# Altium schematic symbol library CPLD_Altera.SchLib: 26 symbols
Pins are listed as number, name and electrical type; pins without a type are passive.

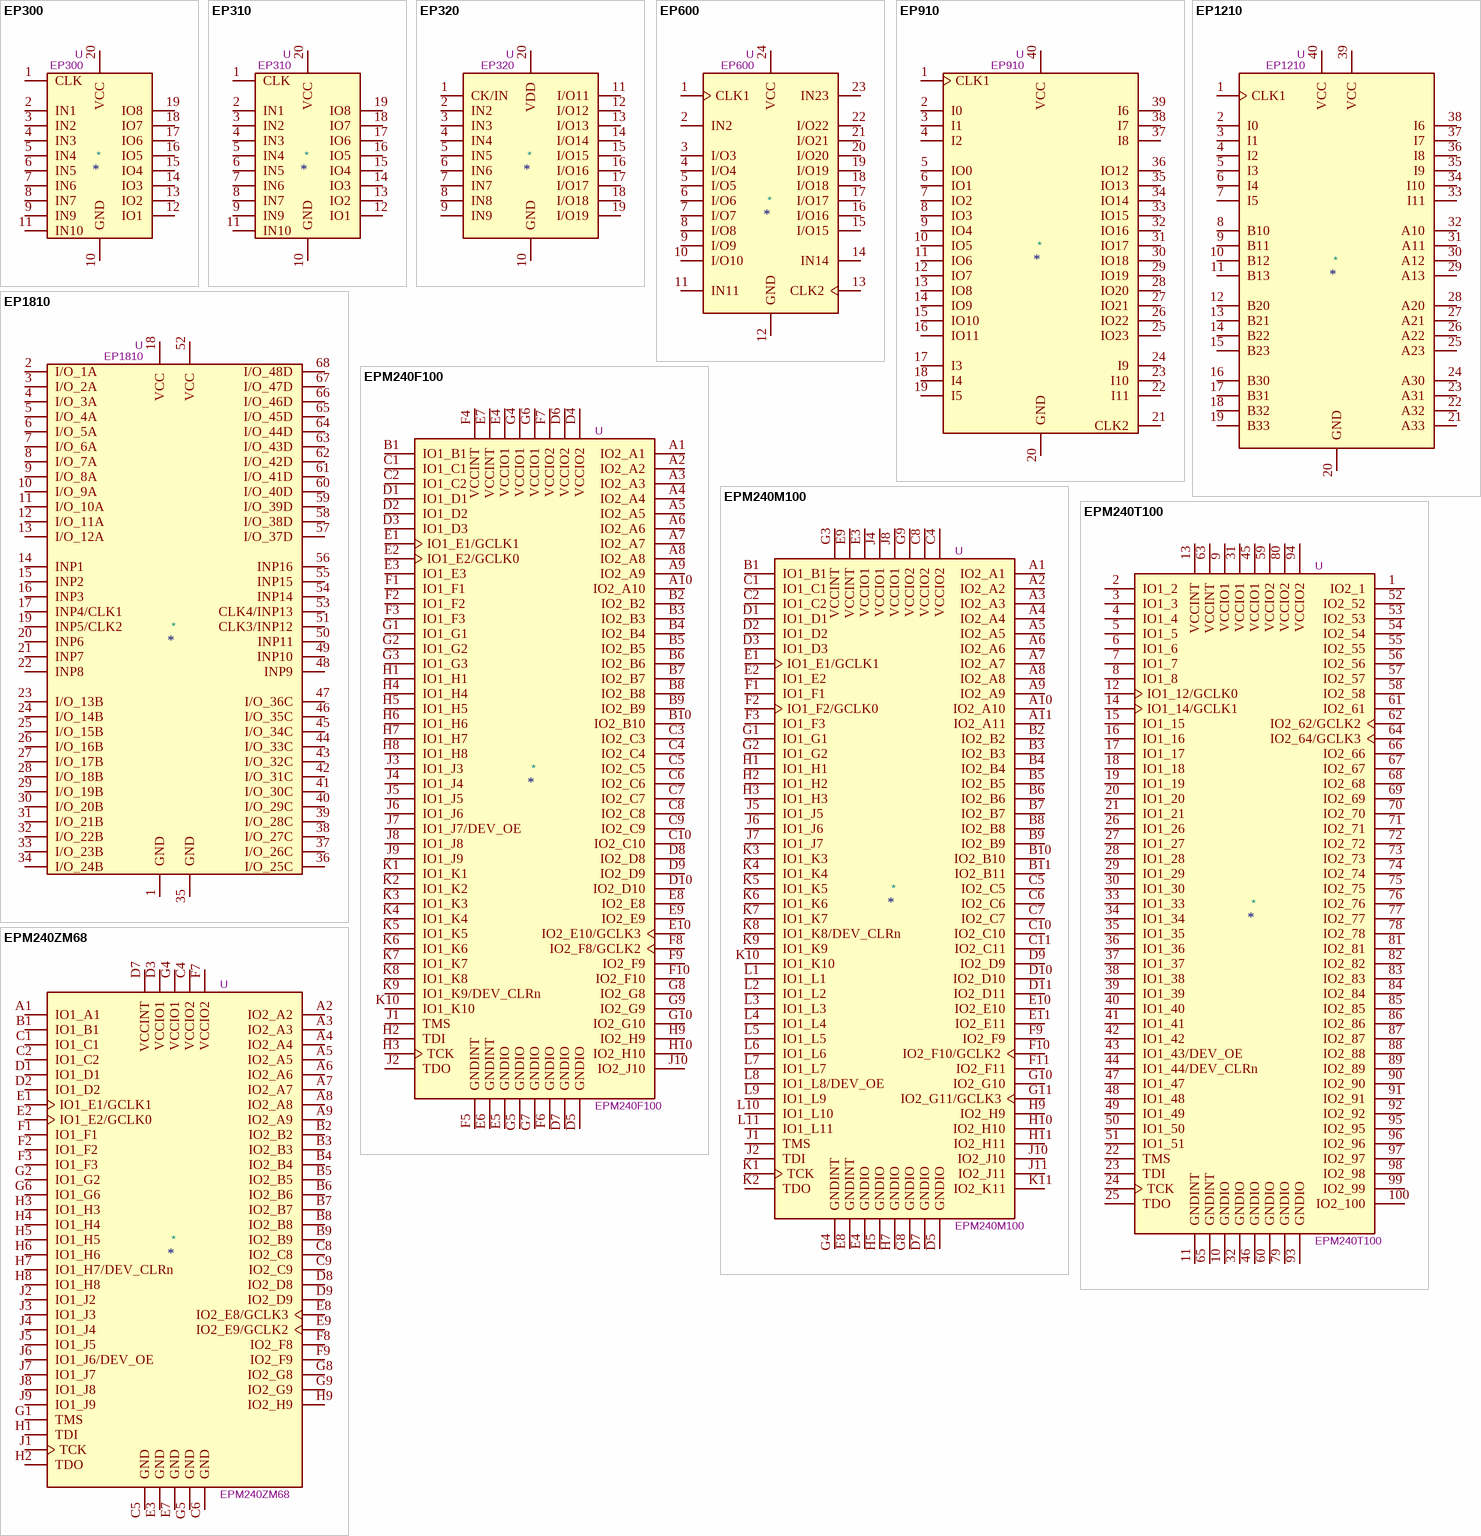
[diagram p0: symbols EP300 to EPM240ZM68]

## EP300
designator *  value EP300  Reference: U
ki_keywords: EPLD; ki_description: EPLD, DIP-20; ki_fp_filters: DIP*W7.62mm*; Footprint: Package_DIP:DIP-20_W7.62mm; Datasheet: ~
pins: 1 CLK, 2 IN1, 3 IN2, 4 IN3, 5 IN4, 6 IN5, 7 IN6, 8 IN7, 9 IN9, 10 GND, 11 IN10, 12 IO1, 13 IO2, 14 IO3, 15 IO4, 16 IO5, 17 IO6, 18 IO7, 19 IO8, 20 VCC

## EP310
designator *  value EP310  Reference: U
ki_keywords: EPLD; ki_description: EPLD, 8 Macrocell, DIP-20; ki_fp_filters: DIP*W7.62mm*; Footprint: Package_DIP:DIP-20_W7.62mm; Datasheet: https://www.usbid.com/assets/datasheets/A6/ep310%20-%20epld%20-%20altera.pdf
pins: 1 CLK, 2 IN1, 3 IN2, 4 IN3, 5 IN4, 6 IN5, 7 IN6, 8 IN7, 9 IN9, 10 GND, 11 IN10, 12 IO1, 13 IO2, 14 IO3, 15 IO4, 16 IO5, 17 IO6, 18 IO7, 19 IO8, 20 VCC

## EP320
designator *  value EP320  Reference: U
ki_keywords: EPLD; Datasheet: ~; ki_description: EPLD
pins: 1 CK/IN, 2 IN2, 3 IN3, 4 IN4, 5 IN5, 6 IN6, 7 IN7, 8 IN8, 9 IN9, 10 GND, 11 I/O11, 12 I/O12, 13 I/O13, 14 I/O14, 15 I/O15, 16 I/O16, 17 I/O17, 18 I/O18, 19 I/O19, 20 VDD

## EP600
designator *  value EP600  Reference: U
ki_keywords: EPLD; Datasheet: ~; ki_description: EPLD
pins: 1 CLK1, 2 IN2, 3 I/O3, 4 I/O4, 5 I/O5, 6 I/O6, 7 I/O7, 8 I/O8, 9 I/O9, 10 I/O10, 11 IN11, 12 GND, 13 CLK2, 14 IN14, 15 I/O15, 16 I/O16, 17 I/O17, 18 I/O18, 19 I/O19, 20 I/O20, 21 I/O21, 22 I/O22, 23 IN23, 24 VCC

## EP910
designator *  value EP910  Reference: U
ki_keywords: EPLD; Datasheet: ~; ki_description: EPLD
pins: 1 CLK1, 2 I0, 3 I1, 4 I2, 5 IO0, 6 IO1, 7 IO2, 8 IO3, 9 IO4, 10 IO5, 11 IO6, 12 IO7, 13 IO8, 14 IO9, 15 IO10, 16 IO11, 17 I3, 18 I4, 19 I5, 20 GND, 21 CLK2, 22 I11, 23 I10, 24 I9, 25 IO23, 26 IO22, 27 IO21, 28 IO20, 29 IO19, 30 IO18, 31 IO17, 32 IO16, 33 IO15, 34 IO14, 35 IO13, 36 IO12, 37 I8, 38 I7, 39 I6, 40 VCC

## EP1210
designator *  value EP1210  Reference: U
ki_keywords: EPLD; Datasheet: ~; ki_description: EPLD
pins: 1 CLK1, 2 I0, 3 I1, 4 I2, 5 I3, 6 I4, 7 I5, 8 B10, 9 B11, 10 B12, 11 B13, 12 B20, 13 B21, 14 B22, 15 B23, 16 B30, 17 B31, 18 B32, 19 B33, 20 GND, 21 A33, 22 A32, 23 A31, 24 A30, 25 A23, 26 A22, 27 A21, 28 A20, 29 A13, 30 A12, 31 A11, 32 A10, 33 I11, 34 I10, 35 I9, 36 I8, 37 I7, 38 I6, 39 VCC, 40 VCC

## EP1810
designator *  value EP1810  Reference: U
ki_keywords: EPLD; Datasheet: ~; ki_description: EPLD
pins: 1 GND, 2 I/O_1A, 3 I/O_2A, 4 I/O_3A, 5 I/O_4A, 6 I/O_5A, 7 I/O_6A, 8 I/O_7A, 9 I/O_8A, 10 I/O_9A, 11 I/O_10A, 12 I/O_11A, 13 I/O_12A, 14 INP1, 15 INP2, 16 INP3, 17 INP4/CLK1, 18 VCC, 19 INP5/CLK2, 20 INP6, 21 INP7, 22 INP8, 23 I/O_13B, 24 I/O_14B, 25 I/O_15B, 26 I/O_16B, 27 I/O_17B, 28 I/O_18B, 29 I/O_19B, 30 I/O_20B, 31 I/O_21B, 32 I/O_22B, 33 I/O_23B, 34 I/O_24B, 35 GND, 36 I/O_25C, 37 I/O_26C, 38 I/O_27C, 39 I/O_28C, 40 I/O_29C, 41 I/O_30C, 42 I/O_31C, 43 I/O_32C, 44 I/O_33C, 45 I/O_34C, 46 I/O_35C, 47 I/O_36C, 48 INP9, 49 INP10, 50 INP11, 51 CLK3/INP12, 52 VCC, 53 CLK4/INP13, 54 INP14, 55 INP15, 56 INP16, 57 I/O_37D, 58 I/O_38D, 59 I/O_39D, 60 I/O_40D, 61 I/O_41D, 62 I/O_42D, 63 I/O_43D, 64 I/O_44D, 65 I/O_45D, 66 I/O_46D, 67 I/O_47D, 68 I/O_48D

## EPM240F100
designator *  value EPM240F100  Reference: U
ki_keywords: MAX2 FBGA; ki_description: Altera MAX2 CPLD with 240 LE; ki_fp_filters: *BGA*P1.0mm*; Footprint: Package_BGA:BGA-100_11.0x11.0mm_Layout10x10_P1.0mm_Ball0.5mm_Pad0.4mm_NSMD; Datasheet: https://www.altera.com/content/dam/altera-www/global/en_US/pdfs/literature/hb/max2/max2_mii5v1.pdf
pins: A1 IO2_A1, A2 IO2_A2, A3 IO2_A3, A4 IO2_A4, A5 IO2_A5, A6 IO2_A6, A7 IO2_A7, A8 IO2_A8, A9 IO2_A9, A10 IO2_A10, B1 IO1_B1, B2 IO2_B2, B3 IO2_B3, B4 IO2_B4, B5 IO2_B5, B6 IO2_B6, B7 IO2_B7, B8 IO2_B8, B9 IO2_B9, B10 IO2_B10, C1 IO1_C1, C2 IO1_C2, C3 IO2_C3, C4 IO2_C4, C5 IO2_C5, C6 IO2_C6, C7 IO2_C7, C8 IO2_C8, C9 IO2_C9, C10 IO2_C10, D1 IO1_D1, D2 IO1_D2, D3 IO1_D3, D4 VCCIO2, D5 GNDIO, D6 VCCIO2, D7 GNDIO, D8 IO2_D8, D9 IO2_D9, D10 IO2_D10, E1 IO1_E1/GCLK1, E2 IO1_E2/GCLK0, E3 IO1_E3, E4 VCCIO1, E5 GNDIO, E6 GNDINT, E7 VCCINT, E8 IO2_E8, E9 IO2_E9, E10 IO2_E10/GCLK3, F1 IO1_F1, F2 IO1_F2, F3 IO1_F3, F4 VCCINT, F5 GNDINT, F6 GNDIO, F7 VCCIO2, F8 IO2_F8/GCLK2, F9 IO2_F9, F10 IO2_F10, G1 IO1_G1, G2 IO1_G2, G3 IO1_G3, G4 VCCIO1, G5 GNDIO, G6 VCCIO1, G7 GNDIO, G8 IO2_G8, G9 IO2_G9, G10 IO2_G10, H1 IO1_H1, H2 TDI, H3 TCK, H4 IO1_H4, H5 IO1_H5, H6 IO1_H6, H7 IO1_H7, H8 IO1_H8, H9 IO2_H9, H10 IO2_H10, J1 TMS, J2 TDO, J3 IO1_J3, J4 IO1_J4, J5 IO1_J5, J6 IO1_J6, J7 IO1_J7/DEV_OE, J8 IO1_J8, J9 IO1_J9, J10 IO2_J10, K1 IO1_K1, K2 IO1_K2, K3 IO1_K3, K4 IO1_K4, K5 IO1_K5, K6 IO1_K6, K7 IO1_K7, K8 IO1_K8, K9 IO1_K9/DEV_CLRn, K10 IO1_K10

## EPM240M100
designator *  value EPM240M100  Reference: U
ki_keywords: MAX2 MBGA; ki_description: Altera MAX2 CPLD with 240 LE; ki_fp_filters: *BGA*P0.5mm*; Footprint: Package_BGA:BGA-100_6.0x6.0mm_Layout11x11_P0.5mm_Ball0.3mm_Pad0.25mm_NSMD; Datasheet: https://www.altera.com/content/dam/altera-www/global/en_US/pdfs/literature/hb/max2/max2_mii5v1.pdf
pins: A1 IO2_A1, A2 IO2_A2, A3 IO2_A3, A4 IO2_A4, A5 IO2_A5, A6 IO2_A6, A7 IO2_A7, A8 IO2_A8, A9 IO2_A9, A10 IO2_A10, A11 IO2_A11, B1 IO1_B1, B2 IO2_B2, B3 IO2_B3, B4 IO2_B4, B5 IO2_B5, B6 IO2_B6, B7 IO2_B7, B8 IO2_B8, B9 IO2_B9, B10 IO2_B10, B11 IO2_B11, C1 IO1_C1, C2 IO1_C2, C4 VCCIO2, C5 IO2_C5, C6 IO2_C6, C7 IO2_C7, C8 VCCIO2, C10 IO2_C10, C11 IO2_C11, D1 IO1_D1, D2 IO1_D2, D3 IO1_D3, D5 GNDIO, D7 GNDIO, D9 IO2_D9, D10 IO2_D10, D11 IO2_D11, E1 IO1_E1/GCLK1, E2 IO1_E2, E3 VCCIO1, E4 GNDIO, E8 GNDINT, E9 VCCINT, E10 IO2_E10, E11 IO2_E11, F1 IO1_F1, F2 IO1_F2/GCLK0, F3 IO1_F3, F9 IO2_F9, F10 IO2_F10/GCLK2, F11 IO2_F11, G1 IO1_G1, G2 IO1_G2, G3 VCCINT, G4 GNDINT, G8 GNDIO, G9 VCCIO2, G10 IO2_G10, G11 IO2_G11/GCLK3, H1 IO1_H1, H2 IO1_H2, H3 IO1_H3, H5 GNDIO, H7 GNDIO, H9 IO2_H9, H10 IO2_H10, H11 IO2_H11, J1 TMS, J2 TDI, J4 VCCIO1, J5 IO1_J5, J6 IO1_J6, J7 IO1_J7, J8 VCCIO1, J10 IO2_J10, J11 IO2_J11, K1 TCK, K2 TDO, K3 IO1_K3, K4 IO1_K4, K5 IO1_K5, K6 IO1_K6, K7 IO1_K7, K8 IO1_K8/DEV_CLRn, K9 IO1_K9, K10 IO1_K10, K11 IO2_K11, L1 IO1_L1, L2 IO1_L2, L3 IO1_L3, L4 IO1_L4, L5 IO1_L5, L6 IO1_L6, L7 IO1_L7, L8 IO1_L8/DEV_OE, L9 IO1_L9, L10 IO1_L10, L11 IO1_L11

## EPM240T100
designator *  value EPM240T100  Reference: U
ki_keywords: MAX2 TQFP; ki_description: Altera MAX2 CPLD with 240 LE; ki_fp_filters: *QFP*P0.5mm*; Footprint: Package_QFP:LQFP-100_14x14mm_P0.5mm; Datasheet: https://www.altera.com/content/dam/altera-www/global/en_US/pdfs/literature/hb/max2/max2_mii5v1.pdf
pins: 1 IO2_1, 2 IO1_2, 3 IO1_3, 4 IO1_4, 5 IO1_5, 6 IO1_6, 7 IO1_7, 8 IO1_8, 9 VCCIO1, 10 GNDIO, 11 GNDINT, 12 IO1_12/GCLK0, 13 VCCINT, 14 IO1_14/GCLK1, 15 IO1_15, 16 IO1_16, 17 IO1_17, 18 IO1_18, 19 IO1_19, 20 IO1_20, 21 IO1_21, 22 TMS, 23 TDI, 24 TCK, 25 TDO, 26 IO1_26, 27 IO1_27, 28 IO1_28, 29 IO1_29, 30 IO1_30, 31 VCCIO1, 32 GNDIO, 33 IO1_33, 34 IO1_34, 35 IO1_35, 36 IO1_36, 37 IO1_37, 38 IO1_38, 39 IO1_39, 40 IO1_40, 41 IO1_41, 42 IO1_42, 43 IO1_43/DEV_OE, 44 IO1_44/DEV_CLRn, 45 VCCIO1, 46 GNDIO, 47 IO1_47, 48 IO1_48, 49 IO1_49, 50 IO1_50, 51 IO1_51, 52 IO2_52, 53 IO2_53, 54 IO2_54, 55 IO2_55, 56 IO2_56, 57 IO2_57, 58 IO2_58, 59 VCCIO2, 60 GNDIO, 61 IO2_61, 62 IO2_62/GCLK2, 63 VCCINT, 64 IO2_64/GCLK3, 65 GNDINT, 66 IO2_66, 67 IO2_67, 68 IO2_68, 69 IO2_69, 70 IO2_70, 71 IO2_71, 72 IO2_72, 73 IO2_73, 74 IO2_74, 75 IO2_75, 76 IO2_76, 77 IO2_77, 78 IO2_78, 79 GNDIO, 80 VCCIO2, 81 IO2_81, 82 IO2_82, 83 IO2_83, 84 IO2_84, 85 IO2_85, 86 IO2_86, 87 IO2_87, 88 IO2_88, 89 IO2_89, 90 IO2_90, 91 IO2_91, 92 IO2_92, 93 GNDIO, 94 VCCIO2, 95 IO2_95, 96 IO2_96, 97 IO2_97, 98 IO2_98, 99 IO2_99, 100 IO2_100

## EPM240ZM68
designator *  value EPM240ZM68  Reference: U
ki_keywords: MAX2 MBGA; ki_description: Altera Zero-Power MAX2 CPLD with 240 LE; ki_fp_filters: *BGA*P0.5mm*; Footprint: Package_BGA:BGA-68_5.0x5.0mm_Layout9x9_P0.5mm_Ball0.3mm_Pad0.25mm_NSMD; Datasheet: https://www.altera.com/content/dam/altera-www/global/en_US/pdfs/literature/hb/max2/max2_mii5v1.pdf
pins: A1 IO1_A1, A2 IO2_A2, A3 IO2_A3, A4 IO2_A4, A5 IO2_A5, A6 IO2_A6, A7 IO2_A7, A8 IO2_A8, A9 IO2_A9, B1 IO1_B1, B2 IO2_B2, B3 IO2_B3, B4 IO2_B4, B5 IO2_B5, B6 IO2_B6, B7 IO2_B7, B8 IO2_B8, B9 IO2_B9, C1 IO1_C1, C2 IO1_C2, C4 VCCIO2, C5 GND, C6 GND, C8 IO2_C8, C9 IO2_C9, D1 IO1_D1, D2 IO1_D2, D3 VCCIO1, D7 VCCINT, D8 IO2_D8, D9 IO2_D9, E1 IO1_E1/GCLK1, E2 IO1_E2/GCLK0, E3 GND, E7 GND, E8 IO2_E8/GCLK3, E9 IO2_E9/GCLK2, F1 IO1_F1, F2 IO1_F2, F3 IO1_F3, F7 VCCIO2, F8 IO2_F8, F9 IO2_F9, G1 TMS, G2 IO1_G2, G4 VCCIO1, G5 GND, G6 IO1_G6, G8 IO2_G8, G9 IO2_G9, H1 TDI, H2 TDO, H3 IO1_H3, H4 IO1_H4, H5 IO1_H5, H6 IO1_H6, H7 IO1_H7/DEV_CLRn, H8 IO1_H8, H9 IO2_H9, J1 TCK, J2 IO1_J2, J3 IO1_J3, J4 IO1_J4, J5 IO1_J5, J6 IO1_J6/DEV_OE, J7 IO1_J7, J8 IO1_J8, J9 IO1_J9

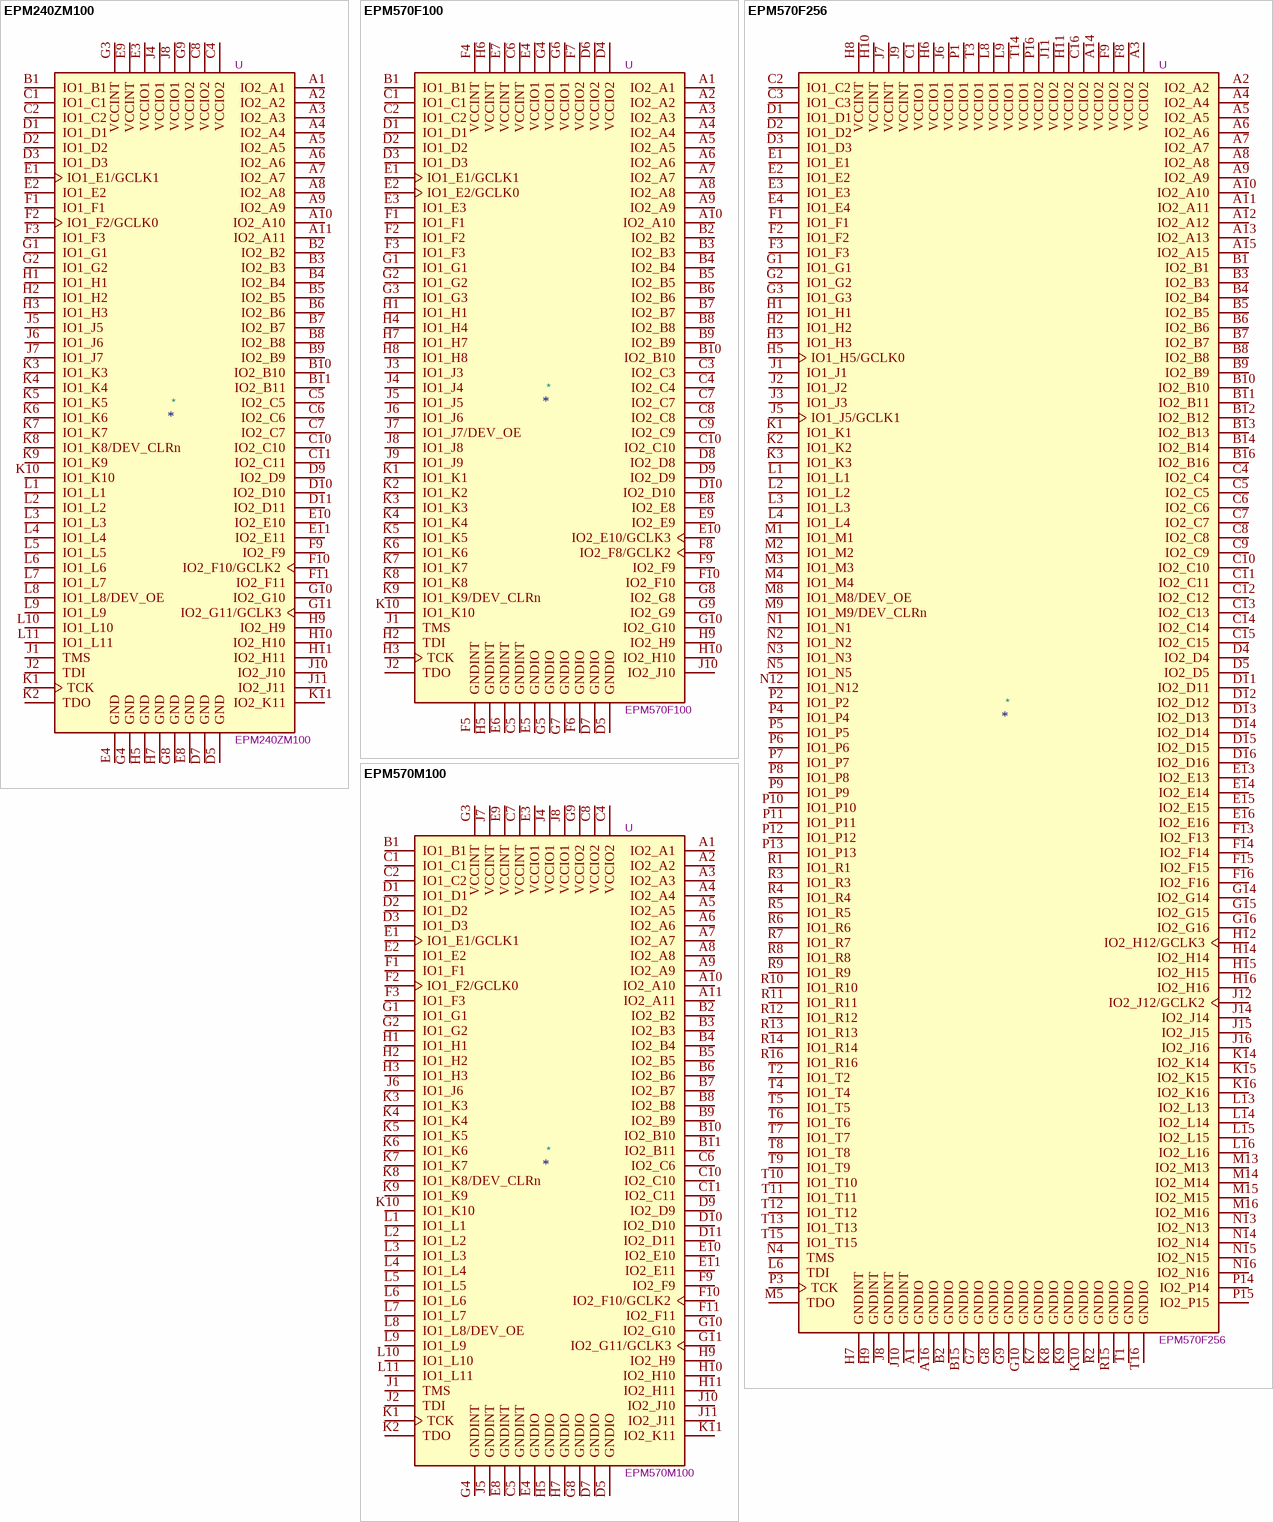
[diagram p1: symbols EPM240ZM100 to EPM570M100]

## EPM240ZM100
designator *  value EPM240ZM100  Reference: U
ki_keywords: MAX2 MBGA; ki_description: Altera Zero-Power MAX2 CPLD with 240 LE; ki_fp_filters: *BGA*P0.5mm*; Footprint: Package_BGA:BGA-100_6.0x6.0mm_Layout11x11_P0.5mm_Ball0.3mm_Pad0.25mm_NSMD; Datasheet: https://www.altera.com/content/dam/altera-www/global/en_US/pdfs/literature/hb/max2/max2_mii5v1.pdf
pins: A1 IO2_A1, A2 IO2_A2, A3 IO2_A3, A4 IO2_A4, A5 IO2_A5, A6 IO2_A6, A7 IO2_A7, A8 IO2_A8, A9 IO2_A9, A10 IO2_A10, A11 IO2_A11, B1 IO1_B1, B2 IO2_B2, B3 IO2_B3, B4 IO2_B4, B5 IO2_B5, B6 IO2_B6, B7 IO2_B7, B8 IO2_B8, B9 IO2_B9, B10 IO2_B10, B11 IO2_B11, C1 IO1_C1, C2 IO1_C2, C4 VCCIO2, C5 IO2_C5, C6 IO2_C6, C7 IO2_C7, C8 VCCIO2, C10 IO2_C10, C11 IO2_C11, D1 IO1_D1, D2 IO1_D2, D3 IO1_D3, D5 GND, D7 GND, D9 IO2_D9, D10 IO2_D10, D11 IO2_D11, E1 IO1_E1/GCLK1, E2 IO1_E2, E3 VCCIO1, E4 GND, E8 GND, E9 VCCINT, E10 IO2_E10, E11 IO2_E11, F1 IO1_F1, F2 IO1_F2/GCLK0, F3 IO1_F3, F9 IO2_F9, F10 IO2_F10/GCLK2, F11 IO2_F11, G1 IO1_G1, G2 IO1_G2, G3 VCCINT, G4 GND, G8 GND, G9 VCCIO2, G10 IO2_G10, G11 IO2_G11/GCLK3, H1 IO1_H1, H2 IO1_H2, H3 IO1_H3, H5 GND, H7 GND, H9 IO2_H9, H10 IO2_H10, H11 IO2_H11, J1 TMS, J2 TDI, J4 VCCIO1, J5 IO1_J5, J6 IO1_J6, J7 IO1_J7, J8 VCCIO1, J10 IO2_J10, J11 IO2_J11, K1 TCK, K2 TDO, K3 IO1_K3, K4 IO1_K4, K5 IO1_K5, K6 IO1_K6, K7 IO1_K7, K8 IO1_K8/DEV_CLRn, K9 IO1_K9, K10 IO1_K10, K11 IO2_K11, L1 IO1_L1, L2 IO1_L2, L3 IO1_L3, L4 IO1_L4, L5 IO1_L5, L6 IO1_L6, L7 IO1_L7, L8 IO1_L8/DEV_OE, L9 IO1_L9, L10 IO1_L10, L11 IO1_L11

## EPM570F100
designator *  value EPM570F100  Reference: U
ki_keywords: MAX2 FBGA; ki_description: Altera MAX2 CPLD with 570 LE; ki_fp_filters: *BGA*P1.0mm*; Footprint: Package_BGA:BGA-100_11.0x11.0mm_Layout10x10_P1.0mm_Ball0.5mm_Pad0.4mm_NSMD; Datasheet: https://www.altera.com/content/dam/altera-www/global/en_US/pdfs/literature/hb/max2/max2_mii5v1.pdf
pins: A1 IO2_A1, A2 IO2_A2, A3 IO2_A3, A4 IO2_A4, A5 IO2_A5, A6 IO2_A6, A7 IO2_A7, A8 IO2_A8, A9 IO2_A9, A10 IO2_A10, B1 IO1_B1, B2 IO2_B2, B3 IO2_B3, B4 IO2_B4, B5 IO2_B5, B6 IO2_B6, B7 IO2_B7, B8 IO2_B8, B9 IO2_B9, B10 IO2_B10, C1 IO1_C1, C2 IO1_C2, C3 IO2_C3, C4 IO2_C4, C5 GNDINT, C6 VCCINT, C7 IO2_C7, C8 IO2_C8, C9 IO2_C9, C10 IO2_C10, D1 IO1_D1, D2 IO1_D2, D3 IO1_D3, D4 VCCIO2, D5 GNDIO, D6 VCCIO2, D7 GNDIO, D8 IO2_D8, D9 IO2_D9, D10 IO2_D10, E1 IO1_E1/GCLK1, E2 IO1_E2/GCLK0, E3 IO1_E3, E4 VCCIO1, E5 GNDIO, E6 GNDINT, E7 VCCINT, E8 IO2_E8, E9 IO2_E9, E10 IO2_E10/GCLK3, F1 IO1_F1, F2 IO1_F2, F3 IO1_F3, F4 VCCINT, F5 GNDINT, F6 GNDIO, F7 VCCIO2, F8 IO2_F8/GCLK2, F9 IO2_F9, F10 IO2_F10, G1 IO1_G1, G2 IO1_G2, G3 IO1_G3, G4 VCCIO1, G5 GNDIO, G6 VCCIO1, G7 GNDIO, G8 IO2_G8, G9 IO2_G9, G10 IO2_G10, H1 IO1_H1, H2 TDI, H3 TCK, H4 IO1_H4, H5 GNDINT, H6 VCCINT, H7 IO1_H7, H8 IO1_H8, H9 IO2_H9, H10 IO2_H10, J1 TMS, J2 TDO, J3 IO1_J3, J4 IO1_J4, J5 IO1_J5, J6 IO1_J6, J7 IO1_J7/DEV_OE, J8 IO1_J8, J9 IO1_J9, J10 IO2_J10, K1 IO1_K1, K2 IO1_K2, K3 IO1_K3, K4 IO1_K4, K5 IO1_K5, K6 IO1_K6, K7 IO1_K7, K8 IO1_K8, K9 IO1_K9/DEV_CLRn, K10 IO1_K10

## EPM570F256
designator *  value EPM570F256  Reference: U
ki_keywords: MAX2 FBGA; ki_description: Altera MAX2 CPLD with 570 LE; ki_fp_filters: *BGA*P1.0mm*; Footprint: Package_BGA:BGA-256_17.0x17.0mm_Layout16x16_P1.0mm_Ball0.5mm_Pad0.4mm_NSMD; Datasheet: https://www.altera.com/content/dam/altera-www/global/en_US/pdfs/literature/hb/max2/max2_mii5v1.pdf
pins: A1 GNDIO, A2 IO2_A2, A3 VCCIO2, A4 IO2_A4, A5 IO2_A5, A6 IO2_A6, A7 IO2_A7, A8 IO2_A8, A9 IO2_A9, A10 IO2_A10, A11 IO2_A11, A12 IO2_A12, A13 IO2_A13, A14 VCCIO2, A15 IO2_A15, A16 GNDIO, B1 IO2_B1, B2 GNDIO, B3 IO2_B3, B4 IO2_B4, B5 IO2_B5, B6 IO2_B6, B7 IO2_B7, B8 IO2_B8, B9 IO2_B9, B10 IO2_B10, B11 IO2_B11, B12 IO2_B12, B13 IO2_B13, B14 IO2_B14, B15 GNDIO, B16 IO2_B16, C1 VCCIO1, C2 IO1_C2, C3 IO1_C3, C4 IO2_C4, C5 IO2_C5, C6 IO2_C6, C7 IO2_C7, C8 IO2_C8, C9 IO2_C9, C10 IO2_C10, C11 IO2_C11, C12 IO2_C12, C13 IO2_C13, C14 IO2_C14, C15 IO2_C15, C16 VCCIO2, D1 IO1_D1, D2 IO1_D2, D3 IO1_D3, D4 IO2_D4, D5 IO2_D5, D11 IO2_D11, D12 IO2_D12, D13 IO2_D13, D14 IO2_D14, D15 IO2_D15, D16 IO2_D16, E1 IO1_E1, E2 IO1_E2, E3 IO1_E3, E4 IO1_E4, E13 IO2_E13, E14 IO2_E14, E15 IO2_E15, E16 IO2_E16, F1 IO1_F1, F2 IO1_F2, F3 IO1_F3, F8 VCCIO2, F9 VCCIO2, F13 IO2_F13, F14 IO2_F14, F15 IO2_F15, F16 IO2_F16, G1 IO1_G1, G2 IO1_G2, G3 IO1_G3, G7 GNDIO, G8 GNDIO, G9 GNDIO, G10 GNDIO, G14 IO2_G14, G15 IO2_G15, G16 IO2_G16, H1 IO1_H1, H2 IO1_H2, H3 IO1_H3, H5 IO1_H5/GCLK0, H6 VCCIO1, H7 GNDINT, H8 VCCINT, H9 GNDINT, H10 VCCINT, H11 VCCIO2, H12 IO2_H12/GCLK3, H14 IO2_H14, H15 IO2_H15, H16 IO2_H16, J1 IO1_J1, J2 IO1_J2, J3 IO1_J3, J5 IO1_J5/GCLK1, J6 VCCIO1, J7 VCCINT, J8 GNDINT, J9 VCCINT, J10 GNDINT, J11 VCCIO2, J12 IO2_J12/GCLK2, J14 IO2_J14, J15 IO2_J15, J16 IO2_J16, K1 IO1_K1, K2 IO1_K2, K3 IO1_K3, K7 GNDIO, K8 GNDIO, K9 GNDIO, K10 GNDIO, K14 IO2_K14, K15 IO2_K15, K16 IO2_K16, L1 IO1_L1, L2 IO1_L2, L3 IO1_L3, L4 IO1_L4, L6 TDI, L8 VCCIO1, L9 VCCIO1, L13 IO2_L13, L14 IO2_L14, L15 IO2_L15, L16 IO2_L16, M1 IO1_M1, M2 IO1_M2, M3 IO1_M3, M4 IO1_M4, M5 TDO, M8 IO1_M8/DEV_OE, M9 IO1_M9/DEV_CLRn, M13 IO2_M13, M14 IO2_M14, M15 IO2_M15, M16 IO2_M16, N1 IO1_N1, N2 IO1_N2, N3 IO1_N3, N4 TMS, N5 IO1_N5, N12 IO1_N12, N13 IO2_N13, N14 IO2_N14, N15 IO2_N15, N16 IO2_N16, P1 VCCIO1, P2 IO1_P2, P3 TCK, P4 IO1_P4, P5 IO1_P5, P6 IO1_P6, P7 IO1_P7, P8 IO1_P8, P9 IO1_P9, P10 IO1_P10, P11 IO1_P11, P12 IO1_P12, P13 IO1_P13, P14 IO2_P14, P15 IO2_P15, P16 VCCIO2, R1 IO1_R1, R2 GNDIO, R3 IO1_R3, R4 IO1_R4, R5 IO1_R5, R6 IO1_R6, R7 IO1_R7, R8 IO1_R8, R9 IO1_R9, R10 IO1_R10, R11 IO1_R11, R12 IO1_R12, R13 IO1_R13, R14 IO1_R14, R15 GNDIO, R16 IO1_R16, T1 GNDIO, T2 IO1_T2, T3 VCCIO1, T4 IO1_T4, T5 IO1_T5, T6 IO1_T6, T7 IO1_T7, T8 IO1_T8, T9 IO1_T9, T10 IO1_T10, T11 IO1_T11, T12 IO1_T12, T13 IO1_T13, T14 VCCIO1, T15 IO1_T15, T16 GNDIO

## EPM570M100
designator *  value EPM570M100  Reference: U
ki_keywords: MAX2 MBGA; ki_description: Altera MAX2 CPLD with 570 LE; ki_fp_filters: *BGA*P0.5mm*; Footprint: Package_BGA:BGA-100_6.0x6.0mm_Layout11x11_P0.5mm_Ball0.3mm_Pad0.25mm_NSMD; Datasheet: https://www.altera.com/content/dam/altera-www/global/en_US/pdfs/literature/hb/max2/max2_mii5v1.pdf
pins: A1 IO2_A1, A2 IO2_A2, A3 IO2_A3, A4 IO2_A4, A5 IO2_A5, A6 IO2_A6, A7 IO2_A7, A8 IO2_A8, A9 IO2_A9, A10 IO2_A10, A11 IO2_A11, B1 IO1_B1, B2 IO2_B2, B3 IO2_B3, B4 IO2_B4, B5 IO2_B5, B6 IO2_B6, B7 IO2_B7, B8 IO2_B8, B9 IO2_B9, B10 IO2_B10, B11 IO2_B11, C1 IO1_C1, C2 IO1_C2, C4 VCCIO2, C5 GNDINT, C6 IO2_C6, C7 VCCINT, C8 VCCIO2, C10 IO2_C10, C11 IO2_C11, D1 IO1_D1, D2 IO1_D2, D3 IO1_D3, D5 GNDIO, D7 GNDIO, D9 IO2_D9, D10 IO2_D10, D11 IO2_D11, E1 IO1_E1/GCLK1, E2 IO1_E2, E3 VCCIO1, E4 GNDIO, E8 GNDINT, E9 VCCINT, E10 IO2_E10, E11 IO2_E11, F1 IO1_F1, F2 IO1_F2/GCLK0, F3 IO1_F3, F9 IO2_F9, F10 IO2_F10/GCLK2, F11 IO2_F11, G1 IO1_G1, G2 IO1_G2, G3 VCCINT, G4 GNDINT, G8 GNDIO, G9 VCCIO2, G10 IO2_G10, G11 IO2_G11/GCLK3, H1 IO1_H1, H2 IO1_H2, H3 IO1_H3, H5 GNDIO, H7 GNDIO, H9 IO2_H9, H10 IO2_H10, H11 IO2_H11, J1 TMS, J2 TDI, J4 VCCIO1, J5 GNDINT, J6 IO1_J6, J7 VCCINT, J8 VCCIO1, J10 IO2_J10, J11 IO2_J11, K1 TCK, K2 TDO, K3 IO1_K3, K4 IO1_K4, K5 IO1_K5, K6 IO1_K6, K7 IO1_K7, K8 IO1_K8/DEV_CLRn, K9 IO1_K9, K10 IO1_K10, K11 IO2_K11, L1 IO1_L1, L2 IO1_L2, L3 IO1_L3, L4 IO1_L4, L5 IO1_L5, L6 IO1_L6, L7 IO1_L7, L8 IO1_L8/DEV_OE, L9 IO1_L9, L10 IO1_L10, L11 IO1_L11

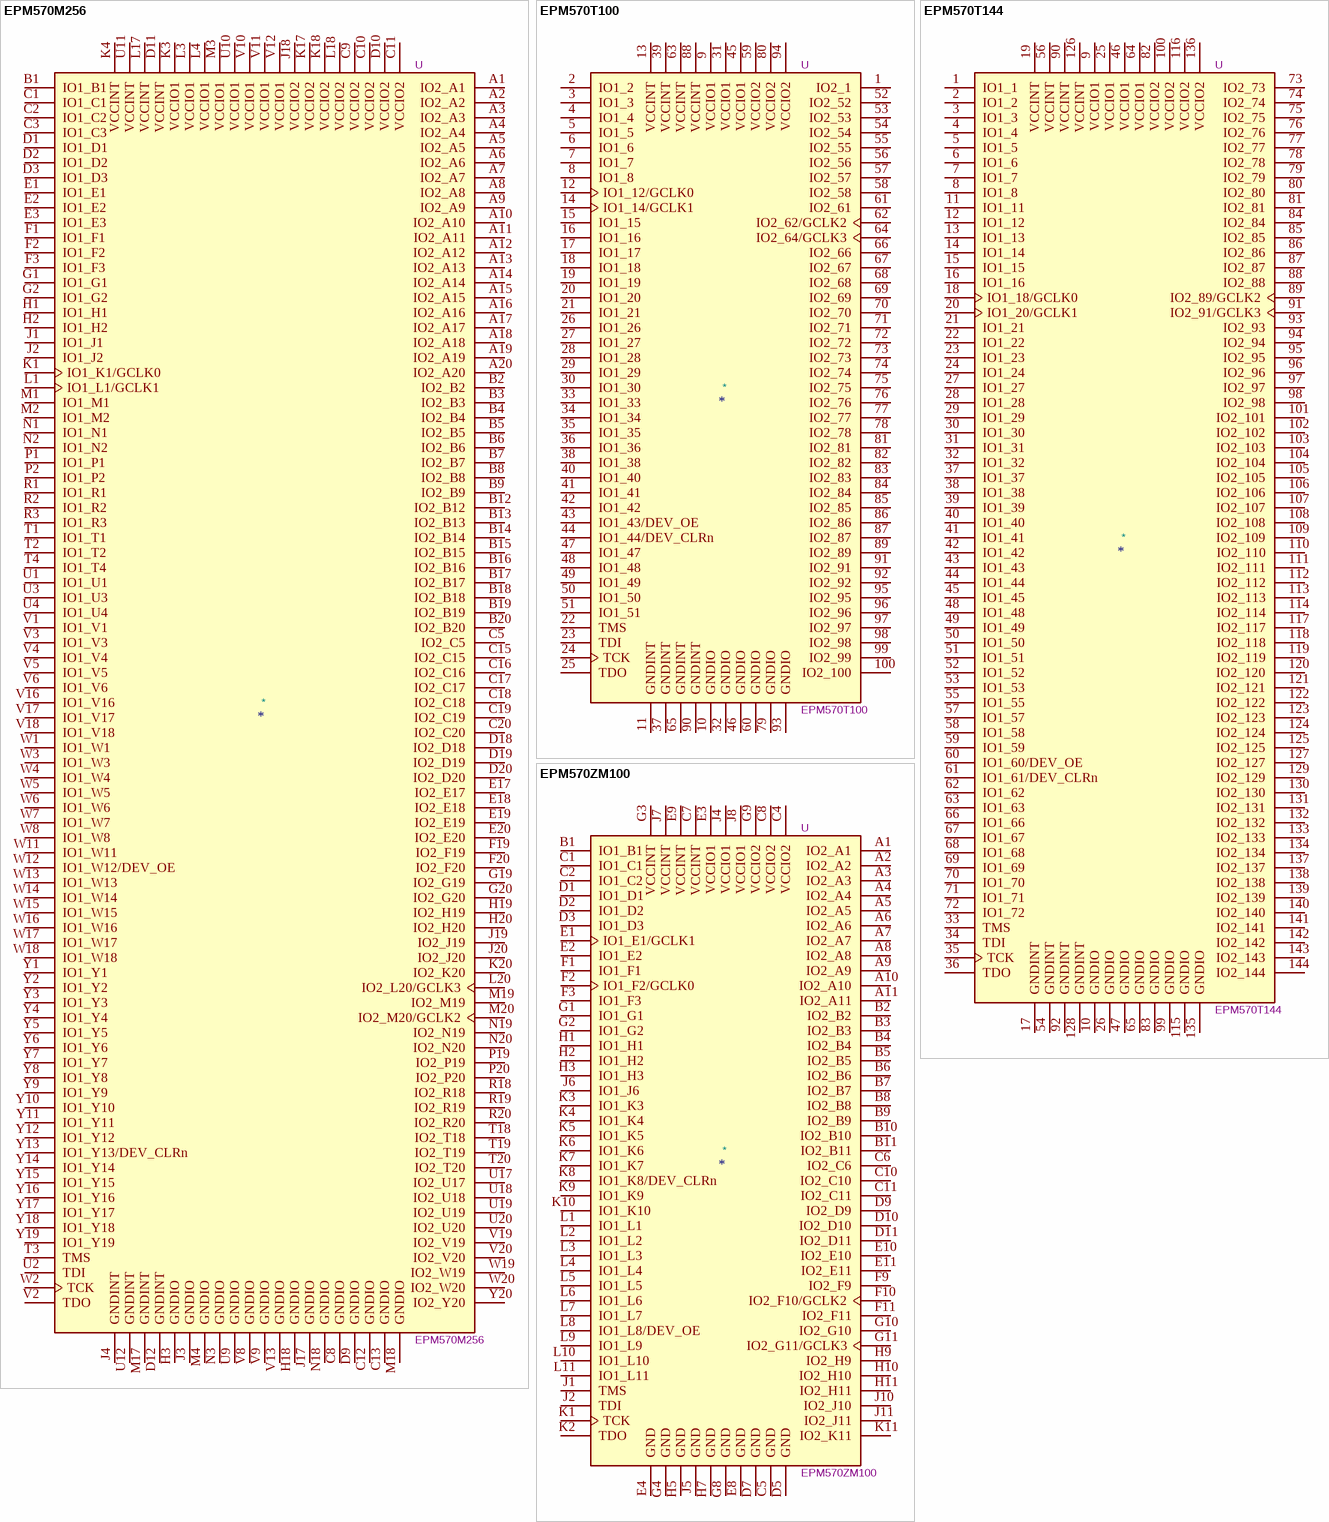
[diagram p2: symbols EPM570M256 to EPM570ZM100]

## EPM570M256
designator *  value EPM570M256  Reference: U
ki_keywords: MAX2 MBGA; ki_description: Altera MAX2 CPLD with 570 LE; ki_fp_filters: *BGA*P0.5mm*; Footprint: Package_BGA:BGA-256_11.0x11.0mm_Layout20x20_P0.5mm_Ball0.3mm_Pad0.25mm_NSMD; Datasheet: https://www.altera.com/content/dam/altera-www/global/en_US/pdfs/literature/hb/max2/max2_mii5v1.pdf
pins: A1 IO2_A1, A2 IO2_A2, A3 IO2_A3, A4 IO2_A4, A5 IO2_A5, A6 IO2_A6, A7 IO2_A7, A8 IO2_A8, A9 IO2_A9, A10 IO2_A10, A11 IO2_A11, A12 IO2_A12, A13 IO2_A13, A14 IO2_A14, A15 IO2_A15, A16 IO2_A16, A17 IO2_A17, A18 IO2_A18, A19 IO2_A19, A20 IO2_A20, B1 IO1_B1, B2 IO2_B2, B3 IO2_B3, B4 IO2_B4, B5 IO2_B5, B6 IO2_B6, B7 IO2_B7, B8 IO2_B8, B9 IO2_B9, B12 IO2_B12, B13 IO2_B13, B14 IO2_B14, B15 IO2_B15, B16 IO2_B16, B17 IO2_B17, B18 IO2_B18, B19 IO2_B19, B20 IO2_B20, C1 IO1_C1, C2 IO1_C2, C3 IO1_C3, C5 IO2_C5, C8 GNDIO, C9 VCCIO2, C10 VCCIO2, C11 VCCIO2, C12 GNDIO, C13 GNDIO, C15 IO2_C15, C16 IO2_C16, C17 IO2_C17, C18 IO2_C18, C19 IO2_C19, C20 IO2_C20, D1 IO1_D1, D2 IO1_D2, D3 IO1_D3, D9 GNDIO, D10 VCCIO2, D11 VCCINT, D12 GNDINT, D18 IO2_D18, D19 IO2_D19, D20 IO2_D20, E1 IO1_E1, E2 IO1_E2, E3 IO1_E3, E17 IO2_E17, E18 IO2_E18, E19 IO2_E19, E20 IO2_E20, F1 IO1_F1, F2 IO1_F2, F3 IO1_F3, F19 IO2_F19, F20 IO2_F20, G1 IO1_G1, G2 IO1_G2, G19 IO2_G19, G20 IO2_G20, H1 IO1_H1, H2 IO1_H2, H3 GNDIO, H18 GNDIO, H19 IO2_H19, H20 IO2_H20, J1 IO1_J1, J2 IO1_J2, J3 GNDIO, J4 GNDINT, J17 GNDIO, J18 VCCIO2, J19 IO2_J19, J20 IO2_J20, K1 IO1_K1/GCLK0, K3 VCCIO1, K4 VCCINT, K17 VCCIO2, K18 VCCIO2, K20 IO2_K20, L1 IO1_L1/GCLK1, L3 VCCIO1, L4 VCCIO1, L17 VCCINT, L18 VCCIO2, L20 IO2_L20/GCLK3, M1 IO1_M1, M2 IO1_M2, M3 VCCIO1, M4 GNDIO, M17 GNDINT, M18 GNDIO, M19 IO2_M19, M20 IO2_M20/GCLK2, N1 IO1_N1, N2 IO1_N2, N3 GNDIO, N18 GNDIO, N19 IO2_N19, N20 IO2_N20, P1 IO1_P1, P2 IO1_P2, P19 IO2_P19, P20 IO2_P20, R1 IO1_R1, R2 IO1_R2, R3 IO1_R3, R18 IO2_R18, R19 IO2_R19, R20 IO2_R20, T1 IO1_T1, T2 IO1_T2, T3 TMS, T4 IO1_T4, T18 IO2_T18, T19 IO2_T19, T20 IO2_T20, U1 IO1_U1, U2 TDI, U3 IO1_U3, U4 IO1_U4, U9 GNDIO, U10 VCCIO1, U11 VCCINT, U12 GNDINT, U17 IO2_U17, U18 IO2_U18, U19 IO2_U19, U20 IO2_U20, V1 IO1_V1, V2 TDO, V3 IO1_V3, V4 IO1_V4, V5 IO1_V5, V6 IO1_V6, V8 GNDIO, V9 GNDIO, V10 VCCIO1, V11 VCCIO1, V12 VCCIO1, V13 GNDIO, V16 IO1_V16, V17 IO1_V17, V18 IO1_V18, V19 IO2_V19, V20 IO2_V20, W1 IO1_W1, W2 TCK, W3 IO1_W3, W4 IO1_W4, W5 IO1_W5, W6 IO1_W6, W7 IO1_W7, W8 IO1_W8, W11 IO1_W11, W12 IO1_W12/DEV_OE, W13 IO1_W13, W14 IO1_W14, W15 IO1_W15, W16 IO1_W16, W17 IO1_W17, W18 IO1_W18, W19 IO2_W19, W20 IO2_W20, Y1 IO1_Y1, Y2 IO1_Y2, Y3 IO1_Y3, Y4 IO1_Y4, Y5 IO1_Y5, Y6 IO1_Y6, Y7 IO1_Y7, Y8 IO1_Y8, Y9 IO1_Y9, Y10 IO1_Y10, Y11 IO1_Y11, Y12 IO1_Y12, Y13 IO1_Y13/DEV_CLRn, Y14 IO1_Y14, Y15 IO1_Y15, Y16 IO1_Y16, Y17 IO1_Y17, Y18 IO1_Y18, Y19 IO1_Y19, Y20 IO2_Y20

## EPM570T100
designator *  value EPM570T100  Reference: U
ki_keywords: MAX2 TQFP; ki_description: Altera MAX2 CPLD with 570 LE; ki_fp_filters: *QFP*P0.5mm*; Footprint: Package_QFP:LQFP-100_14x14mm_P0.5mm; Datasheet: https://www.altera.com/content/dam/altera-www/global/en_US/pdfs/literature/hb/max2/max2_mii5v1.pdf
pins: 1 IO2_1, 2 IO1_2, 3 IO1_3, 4 IO1_4, 5 IO1_5, 6 IO1_6, 7 IO1_7, 8 IO1_8, 9 VCCIO1, 10 GNDIO, 11 GNDINT, 12 IO1_12/GCLK0, 13 VCCINT, 14 IO1_14/GCLK1, 15 IO1_15, 16 IO1_16, 17 IO1_17, 18 IO1_18, 19 IO1_19, 20 IO1_20, 21 IO1_21, 22 TMS, 23 TDI, 24 TCK, 25 TDO, 26 IO1_26, 27 IO1_27, 28 IO1_28, 29 IO1_29, 30 IO1_30, 31 VCCIO1, 32 GNDIO, 33 IO1_33, 34 IO1_34, 35 IO1_35, 36 IO1_36, 37 GNDINT, 38 IO1_38, 39 VCCINT, 40 IO1_40, 41 IO1_41, 42 IO1_42, 43 IO1_43/DEV_OE, 44 IO1_44/DEV_CLRn, 45 VCCIO1, 46 GNDIO, 47 IO1_47, 48 IO1_48, 49 IO1_49, 50 IO1_50, 51 IO1_51, 52 IO2_52, 53 IO2_53, 54 IO2_54, 55 IO2_55, 56 IO2_56, 57 IO2_57, 58 IO2_58, 59 VCCIO2, 60 GNDIO, 61 IO2_61, 62 IO2_62/GCLK2, 63 VCCINT, 64 IO2_64/GCLK3, 65 GNDINT, 66 IO2_66, 67 IO2_67, 68 IO2_68, 69 IO2_69, 70 IO2_70, 71 IO2_71, 72 IO2_72, 73 IO2_73, 74 IO2_74, 75 IO2_75, 76 IO2_76, 77 IO2_77, 78 IO2_78, 79 GNDIO, 80 VCCIO2, 81 IO2_81, 82 IO2_82, 83 IO2_83, 84 IO2_84, 85 IO2_85, 86 IO2_86, 87 IO2_87, 88 VCCINT, 89 IO2_89, 90 GNDINT, 91 IO2_91, 92 IO2_92, 93 GNDIO, 94 VCCIO2, 95 IO2_95, 96 IO2_96, 97 IO2_97, 98 IO2_98, 99 IO2_99, 100 IO2_100

## EPM570T144
designator *  value EPM570T144  Reference: U
ki_keywords: MAX2 TQFP; ki_description: Altera MAX2 CPLD with 570 LE; ki_fp_filters: *QFP*P0.5mm*; Footprint: Package_QFP:LQFP-144_20x20mm_P0.5mm; Datasheet: https://www.altera.com/content/dam/altera-www/global/en_US/pdfs/literature/hb/max2/max2_mii5v1.pdf
pins: 1 IO1_1, 2 IO1_2, 3 IO1_3, 4 IO1_4, 5 IO1_5, 6 IO1_6, 7 IO1_7, 8 IO1_8, 9 VCCIO1, 10 GNDIO, 11 IO1_11, 12 IO1_12, 13 IO1_13, 14 IO1_14, 15 IO1_15, 16 IO1_16, 17 GNDINT, 18 IO1_18/GCLK0, 19 VCCINT, 20 IO1_20/GCLK1, 21 IO1_21, 22 IO1_22, 23 IO1_23, 24 IO1_24, 25 VCCIO1, 26 GNDIO, 27 IO1_27, 28 IO1_28, 29 IO1_29, 30 IO1_30, 31 IO1_31, 32 IO1_32, 33 TMS, 34 TDI, 35 TCK, 36 TDO, 37 IO1_37, 38 IO1_38, 39 IO1_39, 40 IO1_40, 41 IO1_41, 42 IO1_42, 43 IO1_43, 44 IO1_44, 45 IO1_45, 46 VCCIO1, 47 GNDIO, 48 IO1_48, 49 IO1_49, 50 IO1_50, 51 IO1_51, 52 IO1_52, 53 IO1_53, 54 GNDINT, 55 IO1_55, 56 VCCINT, 57 IO1_57, 58 IO1_58, 59 IO1_59, 60 IO1_60/DEV_OE, 61 IO1_61/DEV_CLRn, 62 IO1_62, 63 IO1_63, 64 VCCIO1, 65 GNDIO, 66 IO1_66, 67 IO1_67, 68 IO1_68, 69 IO1_69, 70 IO1_70, 71 IO1_71, 72 IO1_72, 73 IO2_73, 74 IO2_74, 75 IO2_75, 76 IO2_76, 77 IO2_77, 78 IO2_78, 79 IO2_79, 80 IO2_80, 81 IO2_81, 82 VCCIO2, 83 GNDIO, 84 IO2_84, 85 IO2_85, 86 IO2_86, 87 IO2_87, 88 IO2_88, 89 IO2_89/GCLK2, 90 VCCINT, 91 IO2_91/GCLK3, 92 GNDINT, 93 IO2_93, 94 IO2_94, 95 IO2_95, 96 IO2_96, 97 IO2_97, 98 IO2_98, 99 GNDIO, 100 VCCIO2, 101 IO2_101, 102 IO2_102, 103 IO2_103, 104 IO2_104, 105 IO2_105, 106 IO2_106, 107 IO2_107, 108 IO2_108, 109 IO2_109, 110 IO2_110, 111 IO2_111, 112 IO2_112, 113 IO2_113, 114 IO2_114, 115 GNDIO, 116 VCCIO2, 117 IO2_117, 118 IO2_118, 119 IO2_119, 120 IO2_120, 121 IO2_121, 122 IO2_122, 123 IO2_123, 124 IO2_124, 125 IO2_125, 126 VCCINT, 127 IO2_127, 128 GNDINT, 129 IO2_129, 130 IO2_130, 131 IO2_131, 132 IO2_132, 133 IO2_133, 134 IO2_134, 135 GNDIO, 136 VCCIO2, 137 IO2_137, 138 IO2_138, 139 IO2_139, 140 IO2_140, 141 IO2_141, 142 IO2_142, 143 IO2_143, 144 IO2_144

## EPM570ZM100
designator *  value EPM570ZM100  Reference: U
ki_keywords: MAX2 MBGA; ki_description: Altera Zero-Power MAX2 CPLD with 570 LE; ki_fp_filters: *BGA*P0.5mm*; Footprint: Package_BGA:BGA-100_6.0x6.0mm_Layout11x11_P0.5mm_Ball0.3mm_Pad0.25mm_NSMD; Datasheet: https://www.altera.com/content/dam/altera-www/global/en_US/pdfs/literature/hb/max2/max2_mii5v1.pdf
pins: A1 IO2_A1, A2 IO2_A2, A3 IO2_A3, A4 IO2_A4, A5 IO2_A5, A6 IO2_A6, A7 IO2_A7, A8 IO2_A8, A9 IO2_A9, A10 IO2_A10, A11 IO2_A11, B1 IO1_B1, B2 IO2_B2, B3 IO2_B3, B4 IO2_B4, B5 IO2_B5, B6 IO2_B6, B7 IO2_B7, B8 IO2_B8, B9 IO2_B9, B10 IO2_B10, B11 IO2_B11, C1 IO1_C1, C2 IO1_C2, C4 VCCIO2, C5 GND, C6 IO2_C6, C7 VCCINT, C8 VCCIO2, C10 IO2_C10, C11 IO2_C11, D1 IO1_D1, D2 IO1_D2, D3 IO1_D3, D5 GND, D7 GND, D9 IO2_D9, D10 IO2_D10, D11 IO2_D11, E1 IO1_E1/GCLK1, E2 IO1_E2, E3 VCCIO1, E4 GND, E8 GND, E9 VCCINT, E10 IO2_E10, E11 IO2_E11, F1 IO1_F1, F2 IO1_F2/GCLK0, F3 IO1_F3, F9 IO2_F9, F10 IO2_F10/GCLK2, F11 IO2_F11, G1 IO1_G1, G2 IO1_G2, G3 VCCINT, G4 GND, G8 GND, G9 VCCIO2, G10 IO2_G10, G11 IO2_G11/GCLK3, H1 IO1_H1, H2 IO1_H2, H3 IO1_H3, H5 GND, H7 GND, H9 IO2_H9, H10 IO2_H10, H11 IO2_H11, J1 TMS, J2 TDI, J4 VCCIO1, J5 GND, J6 IO1_J6, J7 VCCINT, J8 VCCIO1, J10 IO2_J10, J11 IO2_J11, K1 TCK, K2 TDO, K3 IO1_K3, K4 IO1_K4, K5 IO1_K5, K6 IO1_K6, K7 IO1_K7, K8 IO1_K8/DEV_CLRn, K9 IO1_K9, K10 IO1_K10, K11 IO2_K11, L1 IO1_L1, L2 IO1_L2, L3 IO1_L3, L4 IO1_L4, L5 IO1_L5, L6 IO1_L6, L7 IO1_L7, L8 IO1_L8/DEV_OE, L9 IO1_L9, L10 IO1_L10, L11 IO1_L11

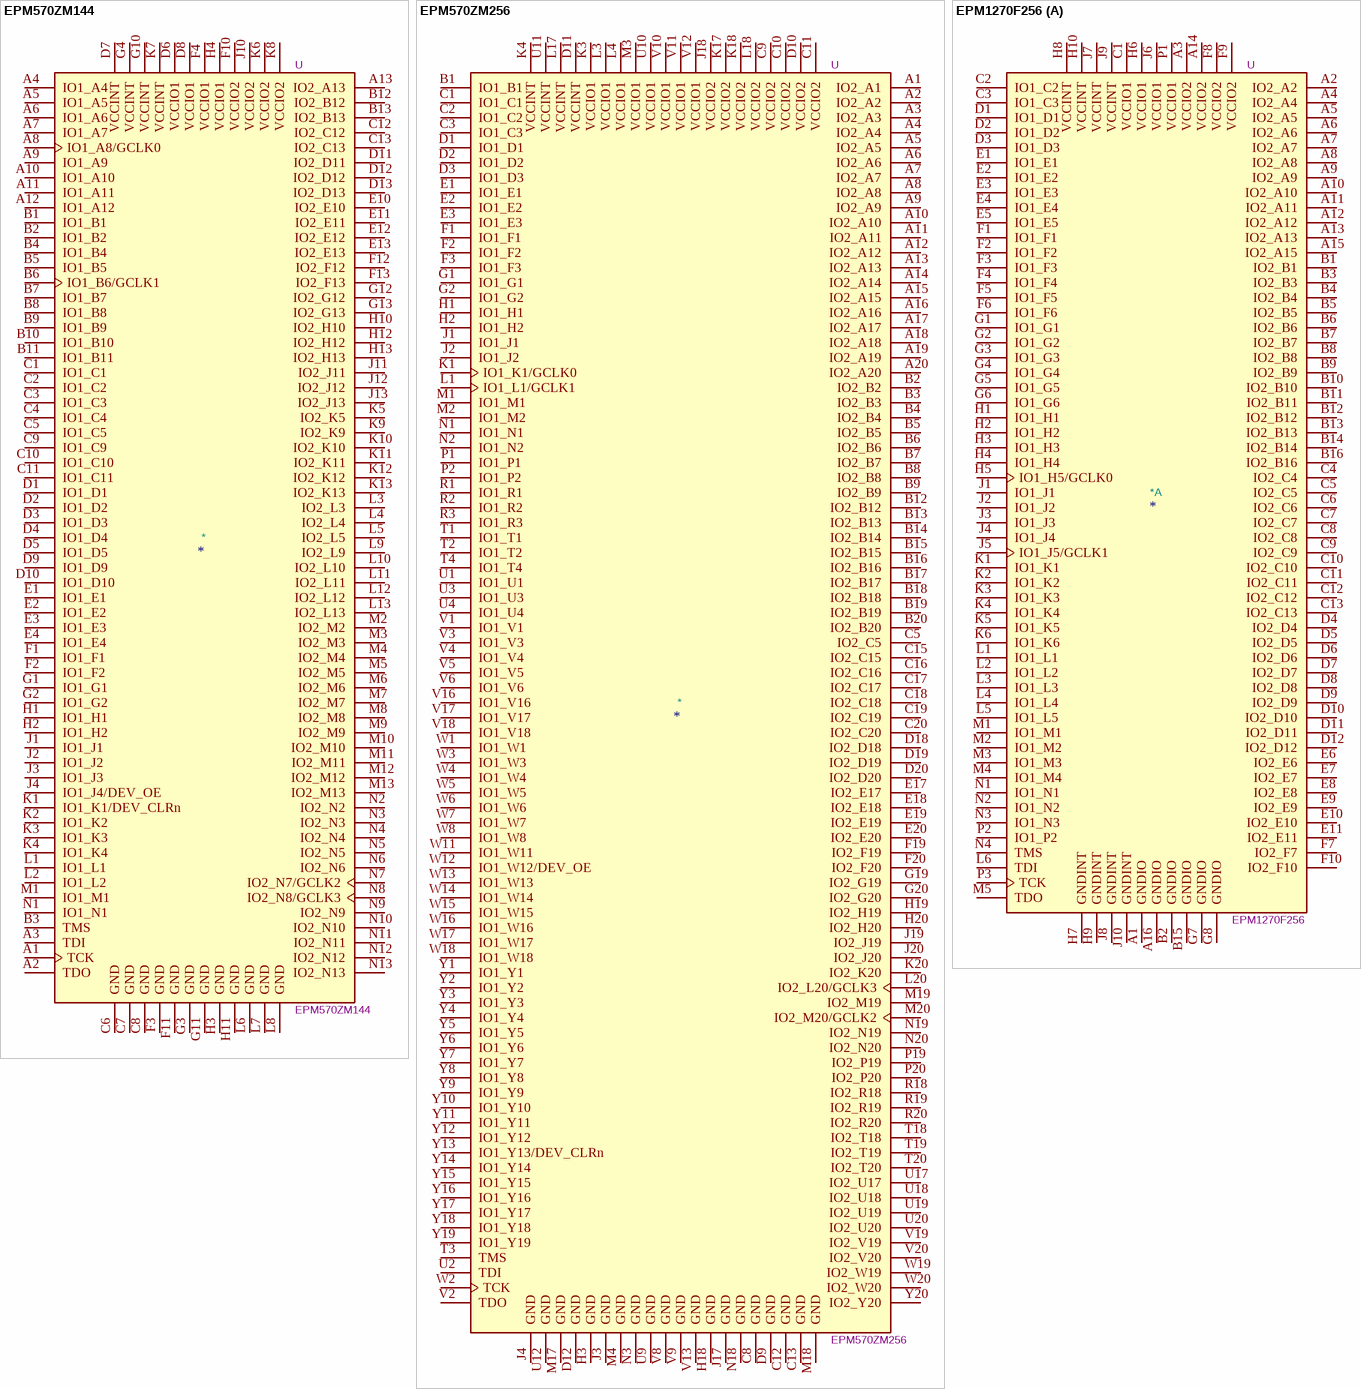
[diagram p3: symbols EPM570ZM144 to EPM1270F256]

## EPM570ZM144
designator *  value EPM570ZM144  Reference: U
ki_keywords: MAX2 MBGA; ki_description: Altera Zero-Power MAX2 CPLD with 570 LE; ki_fp_filters: *BGA*P0.5mm*; Footprint: Package_BGA:BGA-144_7.0x7.0mm_Layout13x13_P0.5mm_Ball0.3mm_Pad0.25mm_NSMD; Datasheet: https://www.altera.com/content/dam/altera-www/global/en_US/pdfs/literature/hb/max2/max2_mii5v1.pdf
pins: A1 TCK, A2 TDO, A3 TDI, A4 IO1_A4, A5 IO1_A5, A6 IO1_A6, A7 IO1_A7, A8 IO1_A8/GCLK0, A9 IO1_A9, A10 IO1_A10, A11 IO1_A11, A12 IO1_A12, A13 IO2_A13, B1 IO1_B1, B2 IO1_B2, B3 TMS, B4 IO1_B4, B5 IO1_B5, B6 IO1_B6/GCLK1, B7 IO1_B7, B8 IO1_B8, B9 IO1_B9, B10 IO1_B10, B11 IO1_B11, B12 IO2_B12, B13 IO2_B13, C1 IO1_C1, C2 IO1_C2, C3 IO1_C3, C4 IO1_C4, C5 IO1_C5, C6 GND, C7 GND, C8 GND, C9 IO1_C9, C10 IO1_C10, C11 IO1_C11, C12 IO2_C12, C13 IO2_C13, D1 IO1_D1, D2 IO1_D2, D3 IO1_D3, D4 IO1_D4, D5 IO1_D5, D6 VCCIO1, D7 VCCINT, D8 VCCIO1, D9 IO1_D9, D10 IO1_D10, D11 IO2_D11, D12 IO2_D12, D13 IO2_D13, E1 IO1_E1, E2 IO1_E2, E3 IO1_E3, E4 IO1_E4, E10 IO2_E10, E11 IO2_E11, E12 IO2_E12, E13 IO2_E13, F1 IO1_F1, F2 IO1_F2, F3 GND, F4 VCCIO1, F10 VCCIO2, F11 GND, F12 IO2_F12, F13 IO2_F13, G1 IO1_G1, G2 IO1_G2, G3 GND, G4 VCCINT, G10 VCCINT, G11 GND, G12 IO2_G12, G13 IO2_G13, H1 IO1_H1, H2 IO1_H2, H3 GND, H4 VCCIO1, H10 IO2_H10, H11 GND, H12 IO2_H12, H13 IO2_H13, J1 IO1_J1, J2 IO1_J2, J3 IO1_J3, J4 IO1_J4/DEV_OE, J10 VCCIO2, J11 IO2_J11, J12 IO2_J12, J13 IO2_J13, K1 IO1_K1/DEV_CLRn, K2 IO1_K2, K3 IO1_K3, K4 IO1_K4, K5 IO2_K5, K6 VCCIO2, K7 VCCINT, K8 VCCIO2, K9 IO2_K9, K10 IO2_K10, K11 IO2_K11, K12 IO2_K12, K13 IO2_K13, L1 IO1_L1, L2 IO1_L2, L3 IO2_L3, L4 IO2_L4, L5 IO2_L5, L6 GND, L7 GND, L8 GND, L9 IO2_L9, L10 IO2_L10, L11 IO2_L11, L12 IO2_L12, L13 IO2_L13, M1 IO1_M1, M2 IO2_M2, M3 IO2_M3, M4 IO2_M4, M5 IO2_M5, M6 IO2_M6, M7 IO2_M7, M8 IO2_M8, M9 IO2_M9, M10 IO2_M10, M11 IO2_M11, M12 IO2_M12, M13 IO2_M13, N1 IO1_N1, N2 IO2_N2, N3 IO2_N3, N4 IO2_N4, N5 IO2_N5, N6 IO2_N6, N7 IO2_N7/GCLK2, N8 IO2_N8/GCLK3, N9 IO2_N9, N10 IO2_N10, N11 IO2_N11, N12 IO2_N12, N13 IO2_N13

## EPM570ZM256
designator *  value EPM570ZM256  Reference: U
ki_keywords: MAX2 MBGA; ki_description: Altera Zero-Power MAX2 CPLD with 570 LE; ki_fp_filters: *BGA*P0.5mm*; Footprint: Package_BGA:BGA-256_11.0x11.0mm_Layout20x20_P0.5mm_Ball0.3mm_Pad0.25mm_NSMD; Datasheet: https://www.altera.com/content/dam/altera-www/global/en_US/pdfs/literature/hb/max2/max2_mii5v1.pdf
pins: A1 IO2_A1, A2 IO2_A2, A3 IO2_A3, A4 IO2_A4, A5 IO2_A5, A6 IO2_A6, A7 IO2_A7, A8 IO2_A8, A9 IO2_A9, A10 IO2_A10, A11 IO2_A11, A12 IO2_A12, A13 IO2_A13, A14 IO2_A14, A15 IO2_A15, A16 IO2_A16, A17 IO2_A17, A18 IO2_A18, A19 IO2_A19, A20 IO2_A20, B1 IO1_B1, B2 IO2_B2, B3 IO2_B3, B4 IO2_B4, B5 IO2_B5, B6 IO2_B6, B7 IO2_B7, B8 IO2_B8, B9 IO2_B9, B12 IO2_B12, B13 IO2_B13, B14 IO2_B14, B15 IO2_B15, B16 IO2_B16, B17 IO2_B17, B18 IO2_B18, B19 IO2_B19, B20 IO2_B20, C1 IO1_C1, C2 IO1_C2, C3 IO1_C3, C5 IO2_C5, C8 GND, C9 VCCIO2, C10 VCCIO2, C11 VCCIO2, C12 GND, C13 GND, C15 IO2_C15, C16 IO2_C16, C17 IO2_C17, C18 IO2_C18, C19 IO2_C19, C20 IO2_C20, D1 IO1_D1, D2 IO1_D2, D3 IO1_D3, D9 GND, D10 VCCIO2, D11 VCCINT, D12 GND, D18 IO2_D18, D19 IO2_D19, D20 IO2_D20, E1 IO1_E1, E2 IO1_E2, E3 IO1_E3, E17 IO2_E17, E18 IO2_E18, E19 IO2_E19, E20 IO2_E20, F1 IO1_F1, F2 IO1_F2, F3 IO1_F3, F19 IO2_F19, F20 IO2_F20, G1 IO1_G1, G2 IO1_G2, G19 IO2_G19, G20 IO2_G20, H1 IO1_H1, H2 IO1_H2, H3 GND, H18 GND, H19 IO2_H19, H20 IO2_H20, J1 IO1_J1, J2 IO1_J2, J3 GND, J4 GND, J17 GND, J18 VCCIO2, J19 IO2_J19, J20 IO2_J20, K1 IO1_K1/GCLK0, K3 VCCIO1, K4 VCCINT, K17 VCCIO2, K18 VCCIO2, K20 IO2_K20, L1 IO1_L1/GCLK1, L3 VCCIO1, L4 VCCIO1, L17 VCCINT, L18 VCCIO2, L20 IO2_L20/GCLK3, M1 IO1_M1, M2 IO1_M2, M3 VCCIO1, M4 GND, M17 GND, M18 GND, M19 IO2_M19, M20 IO2_M20/GCLK2, N1 IO1_N1, N2 IO1_N2, N3 GND, N18 GND, N19 IO2_N19, N20 IO2_N20, P1 IO1_P1, P2 IO1_P2, P19 IO2_P19, P20 IO2_P20, R1 IO1_R1, R2 IO1_R2, R3 IO1_R3, R18 IO2_R18, R19 IO2_R19, R20 IO2_R20, T1 IO1_T1, T2 IO1_T2, T3 TMS, T4 IO1_T4, T18 IO2_T18, T19 IO2_T19, T20 IO2_T20, U1 IO1_U1, U2 TDI, U3 IO1_U3, U4 IO1_U4, U9 GND, U10 VCCIO1, U11 VCCINT, U12 GND, U17 IO2_U17, U18 IO2_U18, U19 IO2_U19, U20 IO2_U20, V1 IO1_V1, V2 TDO, V3 IO1_V3, V4 IO1_V4, V5 IO1_V5, V6 IO1_V6, V8 GND, V9 GND, V10 VCCIO1, V11 VCCIO1, V12 VCCIO1, V13 GND, V16 IO1_V16, V17 IO1_V17, V18 IO1_V18, V19 IO2_V19, V20 IO2_V20, W1 IO1_W1, W2 TCK, W3 IO1_W3, W4 IO1_W4, W5 IO1_W5, W6 IO1_W6, W7 IO1_W7, W8 IO1_W8, W11 IO1_W11, W12 IO1_W12/DEV_OE, W13 IO1_W13, W14 IO1_W14, W15 IO1_W15, W16 IO1_W16, W17 IO1_W17, W18 IO1_W18, W19 IO2_W19, W20 IO2_W20, Y1 IO1_Y1, Y2 IO1_Y2, Y3 IO1_Y3, Y4 IO1_Y4, Y5 IO1_Y5, Y6 IO1_Y6, Y7 IO1_Y7, Y8 IO1_Y8, Y9 IO1_Y9, Y10 IO1_Y10, Y11 IO1_Y11, Y12 IO1_Y12, Y13 IO1_Y13/DEV_CLRn, Y14 IO1_Y14, Y15 IO1_Y15, Y16 IO1_Y16, Y17 IO1_Y17, Y18 IO1_Y18, Y19 IO1_Y19, Y20 IO2_Y20

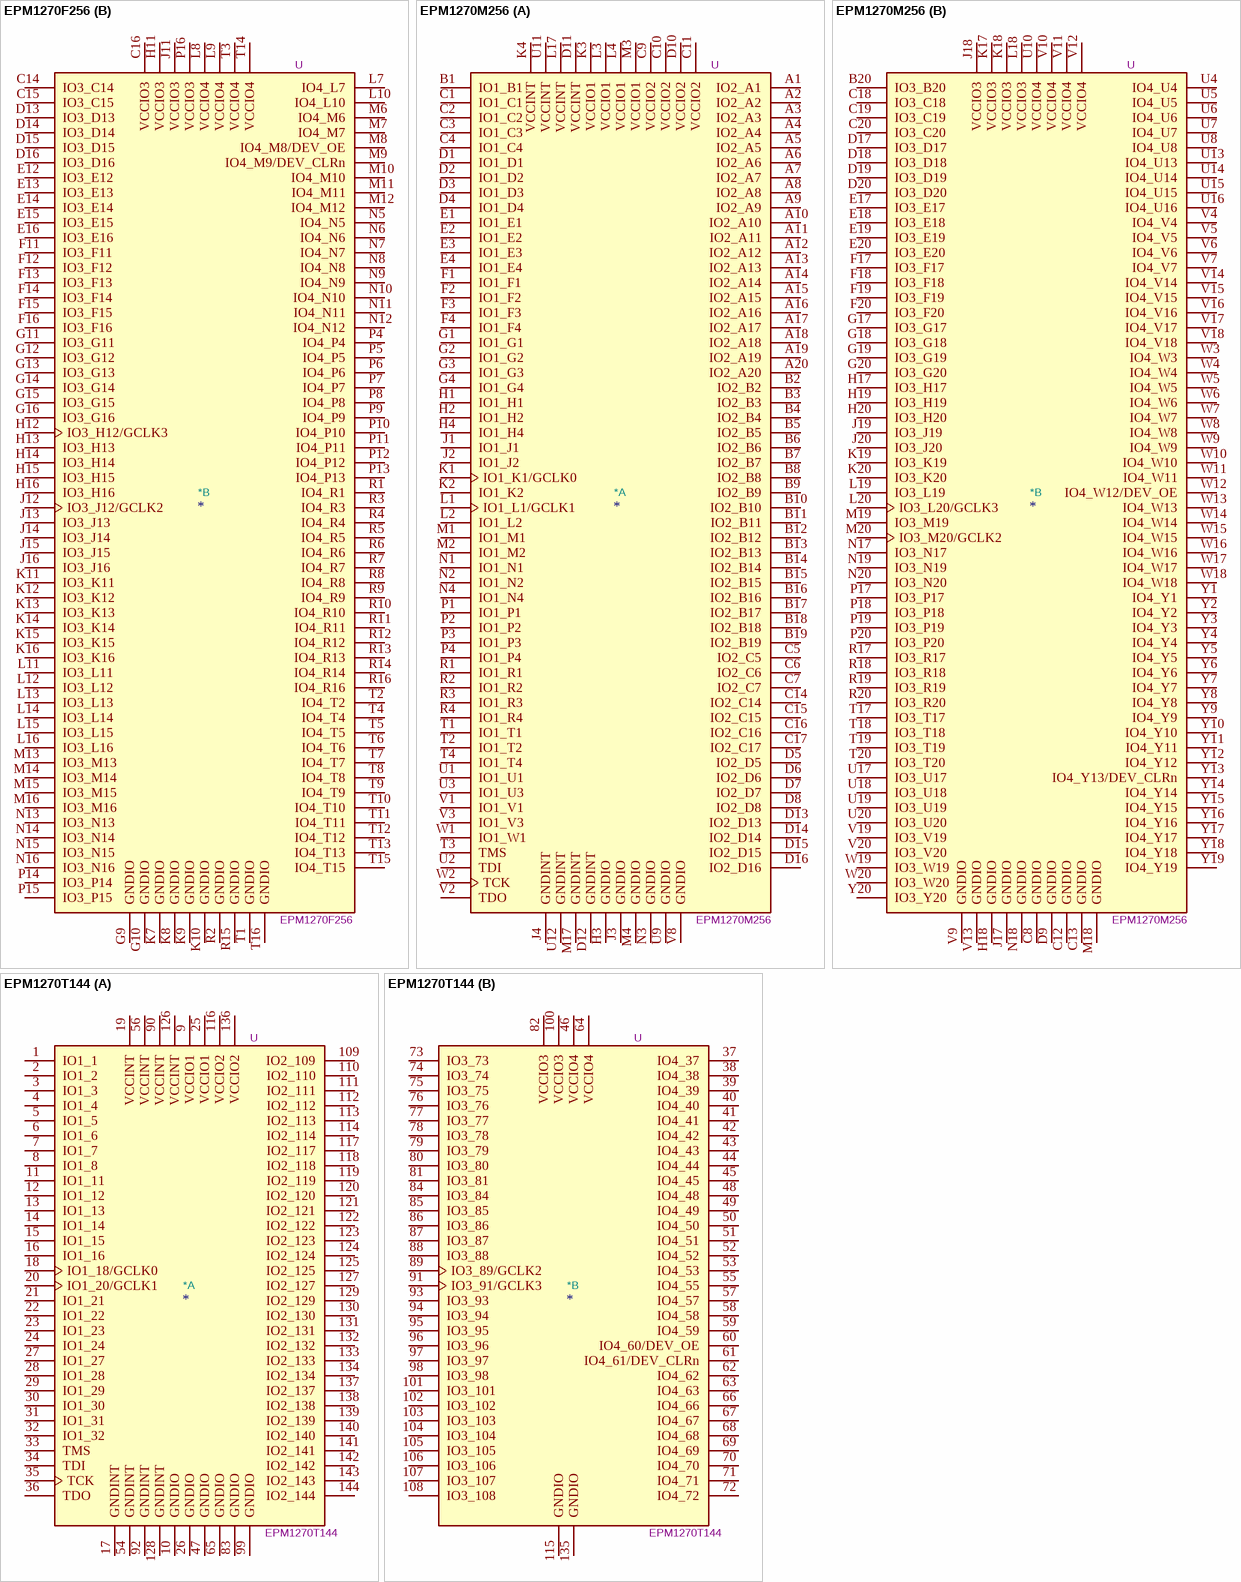
[diagram p4: symbols EPM1270F256 to EPM1270T144]

## EPM1270F256
designator *  value EPM1270F256  Reference: U
ki_keywords: MAX2 FBGA; ki_description: Altera MAX2 CPLD with 1270 LE; ki_fp_filters: *BGA*P1.0mm*; Footprint: Package_BGA:BGA-256_17.0x17.0mm_Layout16x16_P1.0mm_Ball0.5mm_Pad0.4mm_NSMD; Datasheet: https://www.altera.com/content/dam/altera-www/global/en_US/pdfs/literature/hb/max2/max2_mii5v1.pdf
part A pins: A1 GNDIO, A2 IO2_A2, A3 VCCIO2, A4 IO2_A4, A5 IO2_A5, A6 IO2_A6, A7 IO2_A7, A8 IO2_A8, A9 IO2_A9, A10 IO2_A10, A11 IO2_A11, A12 IO2_A12, A13 IO2_A13, A14 VCCIO2, A15 IO2_A15, A16 GNDIO, B1 IO2_B1, B2 GNDIO, B3 IO2_B3, B4 IO2_B4, B5 IO2_B5, B6 IO2_B6, B7 IO2_B7, B8 IO2_B8, B9 IO2_B9, B10 IO2_B10, B11 IO2_B11, B12 IO2_B12, B13 IO2_B13, B14 IO2_B14, B15 GNDIO, B16 IO2_B16, C1 VCCIO1, C2 IO1_C2, C3 IO1_C3, C4 IO2_C4, C5 IO2_C5, C6 IO2_C6, C7 IO2_C7, C8 IO2_C8, C9 IO2_C9, C10 IO2_C10, C11 IO2_C11, C12 IO2_C12, C13 IO2_C13, D1 IO1_D1, D2 IO1_D2, D3 IO1_D3, D4 IO2_D4, D5 IO2_D5, D6 IO2_D6, D7 IO2_D7, D8 IO2_D8, D9 IO2_D9, D10 IO2_D10, D11 IO2_D11, D12 IO2_D12, E1 IO1_E1, E2 IO1_E2, E3 IO1_E3, E4 IO1_E4, E5 IO1_E5, E6 IO2_E6, E7 IO2_E7, E8 IO2_E8, E9 IO2_E9, E10 IO2_E10, E11 IO2_E11, F1 IO1_F1, F2 IO1_F2, F3 IO1_F3, F4 IO1_F4, F5 IO1_F5, F6 IO1_F6, F7 IO2_F7, F8 VCCIO2, F9 VCCIO2, F10 IO2_F10, G1 IO1_G1, G2 IO1_G2, G3 IO1_G3, G4 IO1_G4, G5 IO1_G5, G6 IO1_G6, G7 GNDIO, G8 GNDIO, H1 IO1_H1, H2 IO1_H2, H3 IO1_H3, H4 IO1_H4, H5 IO1_H5/GCLK0, H6 VCCIO1, H7 GNDINT, H8 VCCINT, H9 GNDINT, H10 VCCINT, J1 IO1_J1, J2 IO1_J2, J3 IO1_J3, J4 IO1_J4, J5 IO1_J5/GCLK1, J6 VCCIO1, J7 VCCINT, J8 GNDINT, J9 VCCINT, J10 GNDINT, K1 IO1_K1, K2 IO1_K2, K3 IO1_K3, K4 IO1_K4, K5 IO1_K5, K6 IO1_K6, L1 IO1_L1, L2 IO1_L2, L3 IO1_L3, L4 IO1_L4, L5 IO1_L5, L6 TDI, M1 IO1_M1, M2 IO1_M2, M3 IO1_M3, M4 IO1_M4, M5 TDO, N1 IO1_N1, N2 IO1_N2, N3 IO1_N3, N4 TMS, P1 VCCIO1, P2 IO1_P2, P3 TCK
part B pins: C14 IO3_C14, C15 IO3_C15, C16 VCCIO3, D13 IO3_D13, D14 IO3_D14, D15 IO3_D15, D16 IO3_D16, E12 IO3_E12, E13 IO3_E13, E14 IO3_E14, E15 IO3_E15, E16 IO3_E16, F11 IO3_F11, F12 IO3_F12, F13 IO3_F13, F14 IO3_F14, F15 IO3_F15, F16 IO3_F16, G9 GNDIO, G10 GNDIO, G11 IO3_G11, G12 IO3_G12, G13 IO3_G13, G14 IO3_G14, G15 IO3_G15, G16 IO3_G16, H11 VCCIO3, H12 IO3_H12/GCLK3, H13 IO3_H13, H14 IO3_H14, H15 IO3_H15, H16 IO3_H16, J11 VCCIO3, J12 IO3_J12/GCLK2, J13 IO3_J13, J14 IO3_J14, J15 IO3_J15, J16 IO3_J16, K7 GNDIO, K8 GNDIO, K9 GNDIO, K10 GNDIO, K11 IO3_K11, K12 IO3_K12, K13 IO3_K13, K14 IO3_K14, K15 IO3_K15, K16 IO3_K16, L7 IO4_L7, L8 VCCIO4, L9 VCCIO4, L10 IO4_L10, L11 IO3_L11, L12 IO3_L12, L13 IO3_L13, L14 IO3_L14, L15 IO3_L15, L16 IO3_L16, M6 IO4_M6, M7 IO4_M7, M8 IO4_M8/DEV_OE, M9 IO4_M9/DEV_CLRn, M10 IO4_M10, M11 IO4_M11, M12 IO4_M12, M13 IO3_M13, M14 IO3_M14, M15 IO3_M15, M16 IO3_M16, N5 IO4_N5, N6 IO4_N6, N7 IO4_N7, N8 IO4_N8, N9 IO4_N9, N10 IO4_N10, N11 IO4_N11, N12 IO4_N12, N13 IO3_N13, N14 IO3_N14, N15 IO3_N15, N16 IO3_N16, P4 IO4_P4, P5 IO4_P5, P6 IO4_P6, P7 IO4_P7, P8 IO4_P8, P9 IO4_P9, P10 IO4_P10, P11 IO4_P11, P12 IO4_P12, P13 IO4_P13, P14 IO3_P14, P15 IO3_P15, P16 VCCIO3, R1 IO4_R1, R2 GNDIO, R3 IO4_R3, R4 IO4_R4, R5 IO4_R5, R6 IO4_R6, R7 IO4_R7, R8 IO4_R8, R9 IO4_R9, R10 IO4_R10, R11 IO4_R11, R12 IO4_R12, R13 IO4_R13, R14 IO4_R14, R15 GNDIO, R16 IO4_R16, T1 GNDIO, T2 IO4_T2, T3 VCCIO4, T4 IO4_T4, T5 IO4_T5, T6 IO4_T6, T7 IO4_T7, T8 IO4_T8, T9 IO4_T9, T10 IO4_T10, T11 IO4_T11, T12 IO4_T12, T13 IO4_T13, T14 VCCIO4, T15 IO4_T15, T16 GNDIO

## EPM1270M256
designator *  value EPM1270M256  Reference: U
ki_keywords: MAX2 MBGA; ki_description: Altera MAX2 CPLD with 1270 LE; ki_fp_filters: *BGA*P0.5mm*; Footprint: Package_BGA:BGA-256_11.0x11.0mm_Layout20x20_P0.5mm_Ball0.3mm_Pad0.25mm_NSMD; Datasheet: https://www.altera.com/content/dam/altera-www/global/en_US/pdfs/literature/hb/max2/max2_mii5v1.pdf
part A pins: A1 IO2_A1, A2 IO2_A2, A3 IO2_A3, A4 IO2_A4, A5 IO2_A5, A6 IO2_A6, A7 IO2_A7, A8 IO2_A8, A9 IO2_A9, A10 IO2_A10, A11 IO2_A11, A12 IO2_A12, A13 IO2_A13, A14 IO2_A14, A15 IO2_A15, A16 IO2_A16, A17 IO2_A17, A18 IO2_A18, A19 IO2_A19, A20 IO2_A20, B1 IO1_B1, B2 IO2_B2, B3 IO2_B3, B4 IO2_B4, B5 IO2_B5, B6 IO2_B6, B7 IO2_B7, B8 IO2_B8, B9 IO2_B9, B10 IO2_B10, B11 IO2_B11, B12 IO2_B12, B13 IO2_B13, B14 IO2_B14, B15 IO2_B15, B16 IO2_B16, B17 IO2_B17, B18 IO2_B18, B19 IO2_B19, C1 IO1_C1, C2 IO1_C2, C3 IO1_C3, C4 IO1_C4, C5 IO2_C5, C6 IO2_C6, C7 IO2_C7, C9 VCCIO2, C10 VCCIO2, C11 VCCIO2, C14 IO2_C14, C15 IO2_C15, C16 IO2_C16, C17 IO2_C17, D1 IO1_D1, D2 IO1_D2, D3 IO1_D3, D4 IO1_D4, D5 IO2_D5, D6 IO2_D6, D7 IO2_D7, D8 IO2_D8, D10 VCCIO2, D11 VCCINT, D12 GNDINT, D13 IO2_D13, D14 IO2_D14, D15 IO2_D15, D16 IO2_D16, E1 IO1_E1, E2 IO1_E2, E3 IO1_E3, E4 IO1_E4, F1 IO1_F1, F2 IO1_F2, F3 IO1_F3, F4 IO1_F4, G1 IO1_G1, G2 IO1_G2, G3 IO1_G3, G4 IO1_G4, H1 IO1_H1, H2 IO1_H2, H3 GNDIO, H4 IO1_H4, J1 IO1_J1, J2 IO1_J2, J3 GNDIO, J4 GNDINT, K1 IO1_K1/GCLK0, K2 IO1_K2, K3 VCCIO1, K4 VCCINT, L1 IO1_L1/GCLK1, L2 IO1_L2, L3 VCCIO1, L4 VCCIO1, L17 VCCINT, M1 IO1_M1, M2 IO1_M2, M3 VCCIO1, M4 GNDIO, M17 GNDINT, N1 IO1_N1, N2 IO1_N2, N3 GNDIO, N4 IO1_N4, P1 IO1_P1, P2 IO1_P2, P3 IO1_P3, P4 IO1_P4, R1 IO1_R1, R2 IO1_R2, R3 IO1_R3, R4 IO1_R4, T1 IO1_T1, T2 IO1_T2, T3 TMS, T4 IO1_T4, U1 IO1_U1, U2 TDI, U3 IO1_U3, U9 GNDIO, U11 VCCINT, U12 GNDINT, V1 IO1_V1, V2 TDO, V3 IO1_V3, V8 GNDIO, W1 IO1_W1, W2 TCK
part B pins: B20 IO3_B20, C8 GNDIO, C12 GNDIO, C13 GNDIO, C18 IO3_C18, C19 IO3_C19, C20 IO3_C20, D9 GNDIO, D17 IO3_D17, D18 IO3_D18, D19 IO3_D19, D20 IO3_D20, E17 IO3_E17, E18 IO3_E18, E19 IO3_E19, E20 IO3_E20, F17 IO3_F17, F18 IO3_F18, F19 IO3_F19, F20 IO3_F20, G17 IO3_G17, G18 IO3_G18, G19 IO3_G19, G20 IO3_G20, H17 IO3_H17, H18 GNDIO, H19 IO3_H19, H20 IO3_H20, J17 GNDIO, J18 VCCIO3, J19 IO3_J19, J20 IO3_J20, K17 VCCIO3, K18 VCCIO3, K19 IO3_K19, K20 IO3_K20, L18 VCCIO3, L19 IO3_L19, L20 IO3_L20/GCLK3, M18 GNDIO, M19 IO3_M19, M20 IO3_M20/GCLK2, N17 IO3_N17, N18 GNDIO, N19 IO3_N19, N20 IO3_N20, P17 IO3_P17, P18 IO3_P18, P19 IO3_P19, P20 IO3_P20, R17 IO3_R17, R18 IO3_R18, R19 IO3_R19, R20 IO3_R20, T17 IO3_T17, T18 IO3_T18, T19 IO3_T19, T20 IO3_T20, U4 IO4_U4, U5 IO4_U5, U6 IO4_U6, U7 IO4_U7, U8 IO4_U8, U10 VCCIO4, U13 IO4_U13, U14 IO4_U14, U15 IO4_U15, U16 IO4_U16, U17 IO3_U17, U18 IO3_U18, U19 IO3_U19, U20 IO3_U20, V4 IO4_V4, V5 IO4_V5, V6 IO4_V6, V7 IO4_V7, V9 GNDIO, V10 VCCIO4, V11 VCCIO4, V12 VCCIO4, V13 GNDIO, V14 IO4_V14, V15 IO4_V15, V16 IO4_V16, V17 IO4_V17, V18 IO4_V18, V19 IO3_V19, V20 IO3_V20, W3 IO4_W3, W4 IO4_W4, W5 IO4_W5, W6 IO4_W6, W7 IO4_W7, W8 IO4_W8, W9 IO4_W9, W10 IO4_W10, W11 IO4_W11, W12 IO4_W12/DEV_OE, W13 IO4_W13, W14 IO4_W14, W15 IO4_W15, W16 IO4_W16, W17 IO4_W17, W18 IO4_W18, W19 IO3_W19, W20 IO3_W20, Y1 IO4_Y1, Y2 IO4_Y2, Y3 IO4_Y3, Y4 IO4_Y4, Y5 IO4_Y5, Y6 IO4_Y6, Y7 IO4_Y7, Y8 IO4_Y8, Y9 IO4_Y9, Y10 IO4_Y10, Y11 IO4_Y11, Y12 IO4_Y12, Y13 IO4_Y13/DEV_CLRn, Y14 IO4_Y14, Y15 IO4_Y15, Y16 IO4_Y16, Y17 IO4_Y17, Y18 IO4_Y18, Y19 IO4_Y19, Y20 IO3_Y20

## EPM1270T144
designator *  value EPM1270T144  Reference: U
ki_keywords: MAX2 TQFP; ki_description: Altera MAX2 CPLD with 1270 LE; ki_fp_filters: *QFP*P0.5mm*; Footprint: Package_QFP:LQFP-144_20x20mm_P0.5mm; Datasheet: https://www.altera.com/content/dam/altera-www/global/en_US/pdfs/literature/hb/max2/max2_mii5v1.pdf
part A pins: 1 IO1_1, 2 IO1_2, 3 IO1_3, 4 IO1_4, 5 IO1_5, 6 IO1_6, 7 IO1_7, 8 IO1_8, 9 VCCIO1, 10 GNDIO, 11 IO1_11, 12 IO1_12, 13 IO1_13, 14 IO1_14, 15 IO1_15, 16 IO1_16, 17 GNDINT, 18 IO1_18/GCLK0, 19 VCCINT, 20 IO1_20/GCLK1, 21 IO1_21, 22 IO1_22, 23 IO1_23, 24 IO1_24, 25 VCCIO1, 26 GNDIO, 27 IO1_27, 28 IO1_28, 29 IO1_29, 30 IO1_30, 31 IO1_31, 32 IO1_32, 33 TMS, 34 TDI, 35 TCK, 36 TDO, 47 GNDIO, 54 GNDINT, 56 VCCINT, 65 GNDIO, 83 GNDIO, 90 VCCINT, 92 GNDINT, 99 GNDIO, 109 IO2_109, 110 IO2_110, 111 IO2_111, 112 IO2_112, 113 IO2_113, 114 IO2_114, 116 VCCIO2, 117 IO2_117, 118 IO2_118, 119 IO2_119, 120 IO2_120, 121 IO2_121, 122 IO2_122, 123 IO2_123, 124 IO2_124, 125 IO2_125, 126 VCCINT, 127 IO2_127, 128 GNDINT, 129 IO2_129, 130 IO2_130, 131 IO2_131, 132 IO2_132, 133 IO2_133, 134 IO2_134, 136 VCCIO2, 137 IO2_137, 138 IO2_138, 139 IO2_139, 140 IO2_140, 141 IO2_141, 142 IO2_142, 143 IO2_143, 144 IO2_144
part B pins: 37 IO4_37, 38 IO4_38, 39 IO4_39, 40 IO4_40, 41 IO4_41, 42 IO4_42, 43 IO4_43, 44 IO4_44, 45 IO4_45, 46 VCCIO4, 48 IO4_48, 49 IO4_49, 50 IO4_50, 51 IO4_51, 52 IO4_52, 53 IO4_53, 55 IO4_55, 57 IO4_57, 58 IO4_58, 59 IO4_59, 60 IO4_60/DEV_OE, 61 IO4_61/DEV_CLRn, 62 IO4_62, 63 IO4_63, 64 VCCIO4, 66 IO4_66, 67 IO4_67, 68 IO4_68, 69 IO4_69, 70 IO4_70, 71 IO4_71, 72 IO4_72, 73 IO3_73, 74 IO3_74, 75 IO3_75, 76 IO3_76, 77 IO3_77, 78 IO3_78, 79 IO3_79, 80 IO3_80, 81 IO3_81, 82 VCCIO3, 84 IO3_84, 85 IO3_85, 86 IO3_86, 87 IO3_87, 88 IO3_88, 89 IO3_89/GCLK2, 91 IO3_91/GCLK3, 93 IO3_93, 94 IO3_94, 95 IO3_95, 96 IO3_96, 97 IO3_97, 98 IO3_98, 100 VCCIO3, 101 IO3_101, 102 IO3_102, 103 IO3_103, 104 IO3_104, 105 IO3_105, 106 IO3_106, 107 IO3_107, 108 IO3_108, 115 GNDIO, 135 GNDIO

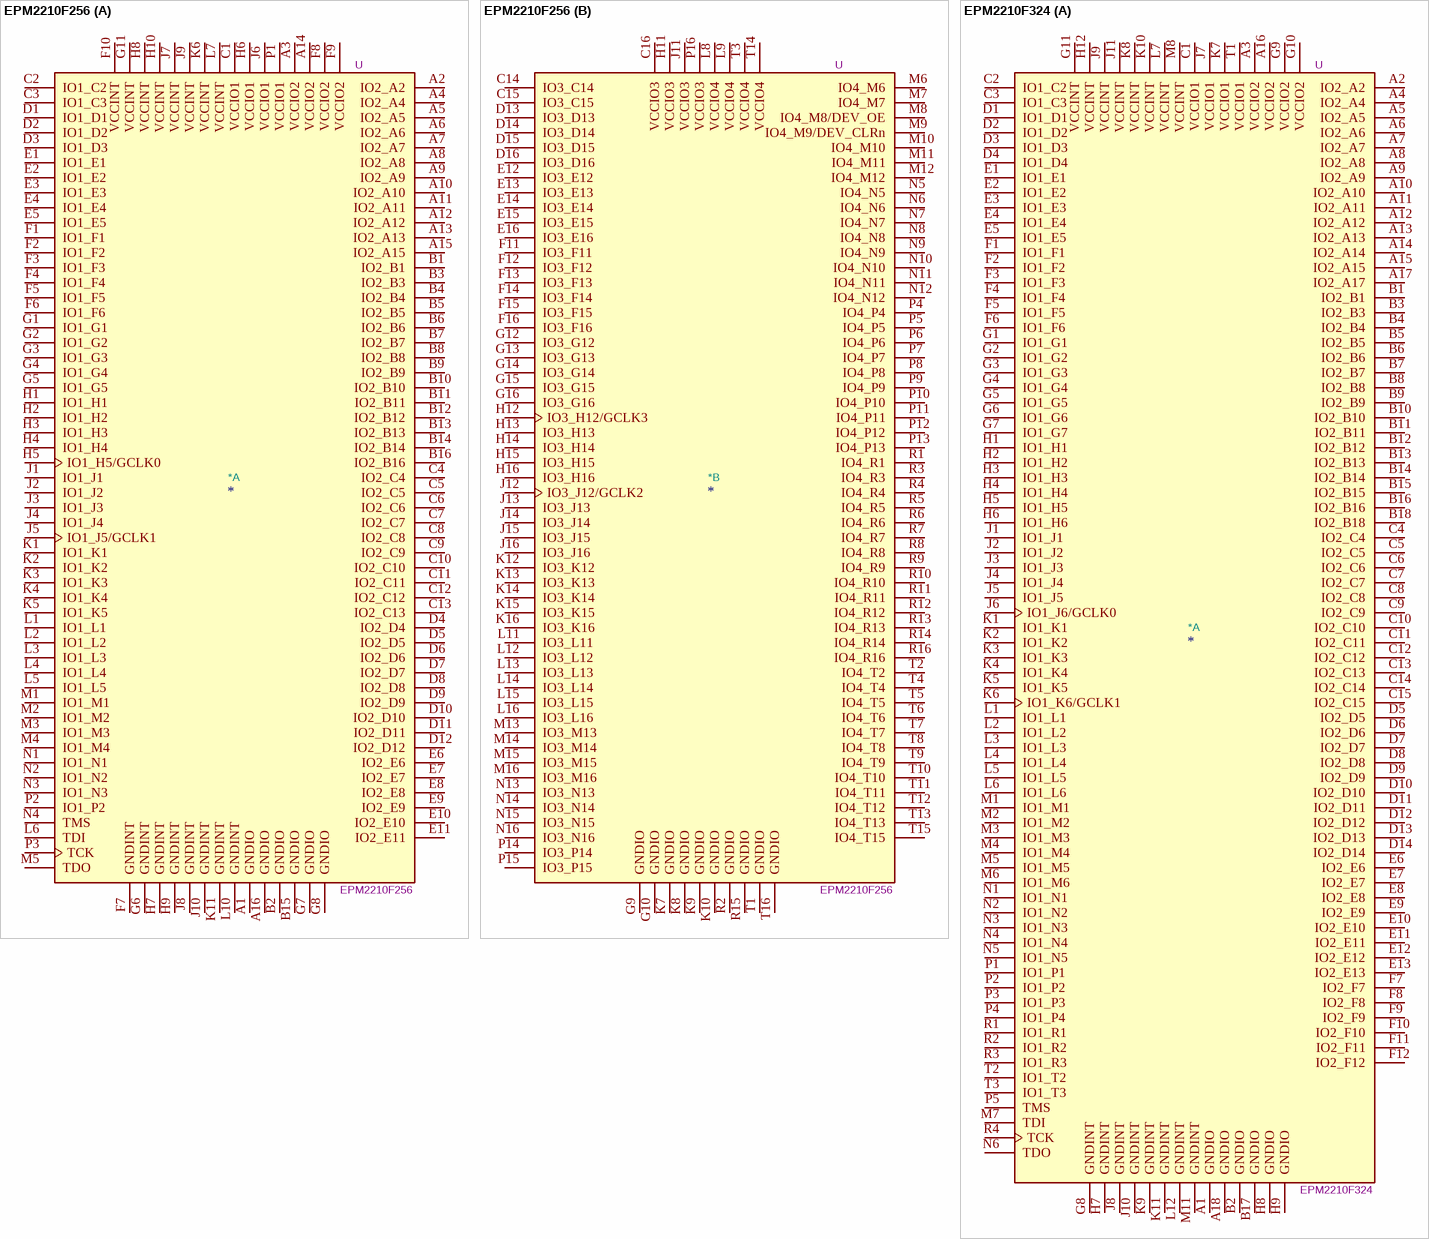
[diagram p5: symbols EPM2210F256 to EPM2210F324]

## EPM2210F256
designator *  value EPM2210F256  Reference: U
ki_keywords: MAX2 FBGA; ki_description: Altera MAX2 CPLD with 2210 LE; ki_fp_filters: *BGA*P1.0mm*; Footprint: Package_BGA:BGA-256_17.0x17.0mm_Layout16x16_P1.0mm_Ball0.5mm_Pad0.4mm_NSMD; Datasheet: https://www.altera.com/content/dam/altera-www/global/en_US/pdfs/literature/hb/max2/max2_mii5v1.pdf
part A pins: A1 GNDIO, A2 IO2_A2, A3 VCCIO2, A4 IO2_A4, A5 IO2_A5, A6 IO2_A6, A7 IO2_A7, A8 IO2_A8, A9 IO2_A9, A10 IO2_A10, A11 IO2_A11, A12 IO2_A12, A13 IO2_A13, A14 VCCIO2, A15 IO2_A15, A16 GNDIO, B1 IO2_B1, B2 GNDIO, B3 IO2_B3, B4 IO2_B4, B5 IO2_B5, B6 IO2_B6, B7 IO2_B7, B8 IO2_B8, B9 IO2_B9, B10 IO2_B10, B11 IO2_B11, B12 IO2_B12, B13 IO2_B13, B14 IO2_B14, B15 GNDIO, B16 IO2_B16, C1 VCCIO1, C2 IO1_C2, C3 IO1_C3, C4 IO2_C4, C5 IO2_C5, C6 IO2_C6, C7 IO2_C7, C8 IO2_C8, C9 IO2_C9, C10 IO2_C10, C11 IO2_C11, C12 IO2_C12, C13 IO2_C13, D1 IO1_D1, D2 IO1_D2, D3 IO1_D3, D4 IO2_D4, D5 IO2_D5, D6 IO2_D6, D7 IO2_D7, D8 IO2_D8, D9 IO2_D9, D10 IO2_D10, D11 IO2_D11, D12 IO2_D12, E1 IO1_E1, E2 IO1_E2, E3 IO1_E3, E4 IO1_E4, E5 IO1_E5, E6 IO2_E6, E7 IO2_E7, E8 IO2_E8, E9 IO2_E9, E10 IO2_E10, E11 IO2_E11, F1 IO1_F1, F2 IO1_F2, F3 IO1_F3, F4 IO1_F4, F5 IO1_F5, F6 IO1_F6, F7 GNDINT, F8 VCCIO2, F9 VCCIO2, F10 VCCINT, G1 IO1_G1, G2 IO1_G2, G3 IO1_G3, G4 IO1_G4, G5 IO1_G5, G6 GNDINT, G7 GNDIO, G8 GNDIO, G11 VCCINT, H1 IO1_H1, H2 IO1_H2, H3 IO1_H3, H4 IO1_H4, H5 IO1_H5/GCLK0, H6 VCCIO1, H7 GNDINT, H8 VCCINT, H9 GNDINT, H10 VCCINT, J1 IO1_J1, J2 IO1_J2, J3 IO1_J3, J4 IO1_J4, J5 IO1_J5/GCLK1, J6 VCCIO1, J7 VCCINT, J8 GNDINT, J9 VCCINT, J10 GNDINT, K1 IO1_K1, K2 IO1_K2, K3 IO1_K3, K4 IO1_K4, K5 IO1_K5, K6 VCCINT, K11 GNDINT, L1 IO1_L1, L2 IO1_L2, L3 IO1_L3, L4 IO1_L4, L5 IO1_L5, L6 TDI, L7 VCCINT, L10 GNDINT, M1 IO1_M1, M2 IO1_M2, M3 IO1_M3, M4 IO1_M4, M5 TDO, N1 IO1_N1, N2 IO1_N2, N3 IO1_N3, N4 TMS, P1 VCCIO1, P2 IO1_P2, P3 TCK
part B pins: C14 IO3_C14, C15 IO3_C15, C16 VCCIO3, D13 IO3_D13, D14 IO3_D14, D15 IO3_D15, D16 IO3_D16, E12 IO3_E12, E13 IO3_E13, E14 IO3_E14, E15 IO3_E15, E16 IO3_E16, F11 IO3_F11, F12 IO3_F12, F13 IO3_F13, F14 IO3_F14, F15 IO3_F15, F16 IO3_F16, G9 GNDIO, G10 GNDIO, G12 IO3_G12, G13 IO3_G13, G14 IO3_G14, G15 IO3_G15, G16 IO3_G16, H11 VCCIO3, H12 IO3_H12/GCLK3, H13 IO3_H13, H14 IO3_H14, H15 IO3_H15, H16 IO3_H16, J11 VCCIO3, J12 IO3_J12/GCLK2, J13 IO3_J13, J14 IO3_J14, J15 IO3_J15, J16 IO3_J16, K7 GNDIO, K8 GNDIO, K9 GNDIO, K10 GNDIO, K12 IO3_K12, K13 IO3_K13, K14 IO3_K14, K15 IO3_K15, K16 IO3_K16, L8 VCCIO4, L9 VCCIO4, L11 IO3_L11, L12 IO3_L12, L13 IO3_L13, L14 IO3_L14, L15 IO3_L15, L16 IO3_L16, M6 IO4_M6, M7 IO4_M7, M8 IO4_M8/DEV_OE, M9 IO4_M9/DEV_CLRn, M10 IO4_M10, M11 IO4_M11, M12 IO4_M12, M13 IO3_M13, M14 IO3_M14, M15 IO3_M15, M16 IO3_M16, N5 IO4_N5, N6 IO4_N6, N7 IO4_N7, N8 IO4_N8, N9 IO4_N9, N10 IO4_N10, N11 IO4_N11, N12 IO4_N12, N13 IO3_N13, N14 IO3_N14, N15 IO3_N15, N16 IO3_N16, P4 IO4_P4, P5 IO4_P5, P6 IO4_P6, P7 IO4_P7, P8 IO4_P8, P9 IO4_P9, P10 IO4_P10, P11 IO4_P11, P12 IO4_P12, P13 IO4_P13, P14 IO3_P14, P15 IO3_P15, P16 VCCIO3, R1 IO4_R1, R2 GNDIO, R3 IO4_R3, R4 IO4_R4, R5 IO4_R5, R6 IO4_R6, R7 IO4_R7, R8 IO4_R8, R9 IO4_R9, R10 IO4_R10, R11 IO4_R11, R12 IO4_R12, R13 IO4_R13, R14 IO4_R14, R15 GNDIO, R16 IO4_R16, T1 GNDIO, T2 IO4_T2, T3 VCCIO4, T4 IO4_T4, T5 IO4_T5, T6 IO4_T6, T7 IO4_T7, T8 IO4_T8, T9 IO4_T9, T10 IO4_T10, T11 IO4_T11, T12 IO4_T12, T13 IO4_T13, T14 VCCIO4, T15 IO4_T15, T16 GNDIO

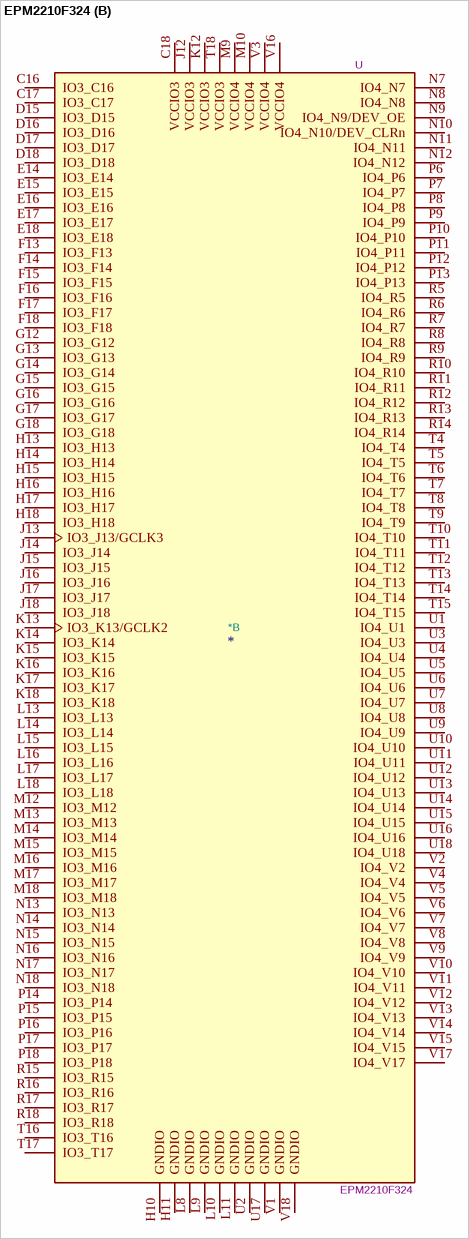
[diagram p6: symbol EPM2210F324]

## EPM2210F324
designator *  value EPM2210F324  Reference: U
ki_keywords: MAX2 FBGA; ki_description: Altera MAX2 CPLD with 2210 LE; ki_fp_filters: *BGA*P1.0mm*; Footprint: Package_BGA:BGA-324_19.0x19.0mm_Layout18x18_P1.0mm_Ball0.5mm_Pad0.4mm_NSMD; Datasheet: https://www.altera.com/content/dam/altera-www/global/en_US/pdfs/literature/hb/max2/max2_mii5v1.pdf
part A pins: A1 GNDIO, A2 IO2_A2, A3 VCCIO2, A4 IO2_A4, A5 IO2_A5, A6 IO2_A6, A7 IO2_A7, A8 IO2_A8, A9 IO2_A9, A10 IO2_A10, A11 IO2_A11, A12 IO2_A12, A13 IO2_A13, A14 IO2_A14, A15 IO2_A15, A16 VCCIO2, A17 IO2_A17, A18 GNDIO, B1 IO2_B1, B2 GNDIO, B3 IO2_B3, B4 IO2_B4, B5 IO2_B5, B6 IO2_B6, B7 IO2_B7, B8 IO2_B8, B9 IO2_B9, B10 IO2_B10, B11 IO2_B11, B12 IO2_B12, B13 IO2_B13, B14 IO2_B14, B15 IO2_B15, B16 IO2_B16, B17 GNDIO, B18 IO2_B18, C1 VCCIO1, C2 IO1_C2, C3 IO1_C3, C4 IO2_C4, C5 IO2_C5, C6 IO2_C6, C7 IO2_C7, C8 IO2_C8, C9 IO2_C9, C10 IO2_C10, C11 IO2_C11, C12 IO2_C12, C13 IO2_C13, C14 IO2_C14, C15 IO2_C15, D1 IO1_D1, D2 IO1_D2, D3 IO1_D3, D4 IO1_D4, D5 IO2_D5, D6 IO2_D6, D7 IO2_D7, D8 IO2_D8, D9 IO2_D9, D10 IO2_D10, D11 IO2_D11, D12 IO2_D12, D13 IO2_D13, D14 IO2_D14, E1 IO1_E1, E2 IO1_E2, E3 IO1_E3, E4 IO1_E4, E5 IO1_E5, E6 IO2_E6, E7 IO2_E7, E8 IO2_E8, E9 IO2_E9, E10 IO2_E10, E11 IO2_E11, E12 IO2_E12, E13 IO2_E13, F1 IO1_F1, F2 IO1_F2, F3 IO1_F3, F4 IO1_F4, F5 IO1_F5, F6 IO1_F6, F7 IO2_F7, F8 IO2_F8, F9 IO2_F9, F10 IO2_F10, F11 IO2_F11, F12 IO2_F12, G1 IO1_G1, G2 IO1_G2, G3 IO1_G3, G4 IO1_G4, G5 IO1_G5, G6 IO1_G6, G7 IO1_G7, G8 GNDINT, G9 VCCIO2, G10 VCCIO2, G11 VCCINT, H1 IO1_H1, H2 IO1_H2, H3 IO1_H3, H4 IO1_H4, H5 IO1_H5, H6 IO1_H6, H7 GNDINT, H8 GNDIO, H9 GNDIO, H12 VCCINT, J1 IO1_J1, J2 IO1_J2, J3 IO1_J3, J4 IO1_J4, J5 IO1_J5, J6 IO1_J6/GCLK0, J7 VCCIO1, J8 GNDINT, J9 VCCINT, J10 GNDINT, J11 VCCINT, K1 IO1_K1, K2 IO1_K2, K3 IO1_K3, K4 IO1_K4, K5 IO1_K5, K6 IO1_K6/GCLK1, K7 VCCIO1, K8 VCCINT, K9 GNDINT, K10 VCCINT, K11 GNDINT, L1 IO1_L1, L2 IO1_L2, L3 IO1_L3, L4 IO1_L4, L5 IO1_L5, L6 IO1_L6, L7 VCCINT, L12 GNDINT, M1 IO1_M1, M2 IO1_M2, M3 IO1_M3, M4 IO1_M4, M5 IO1_M5, M6 IO1_M6, M7 TDI, M8 VCCINT, M11 GNDINT, N1 IO1_N1, N2 IO1_N2, N3 IO1_N3, N4 IO1_N4, N5 IO1_N5, N6 TDO, P1 IO1_P1, P2 IO1_P2, P3 IO1_P3, P4 IO1_P4, P5 TMS, R1 IO1_R1, R2 IO1_R2, R3 IO1_R3, R4 TCK, T1 VCCIO1, T2 IO1_T2, T3 IO1_T3
part B pins: C16 IO3_C16, C17 IO3_C17, C18 VCCIO3, D15 IO3_D15, D16 IO3_D16, D17 IO3_D17, D18 IO3_D18, E14 IO3_E14, E15 IO3_E15, E16 IO3_E16, E17 IO3_E17, E18 IO3_E18, F13 IO3_F13, F14 IO3_F14, F15 IO3_F15, F16 IO3_F16, F17 IO3_F17, F18 IO3_F18, G12 IO3_G12, G13 IO3_G13, G14 IO3_G14, G15 IO3_G15, G16 IO3_G16, G17 IO3_G17, G18 IO3_G18, H10 GNDIO, H11 GNDIO, H13 IO3_H13, H14 IO3_H14, H15 IO3_H15, H16 IO3_H16, H17 IO3_H17, H18 IO3_H18, J12 VCCIO3, J13 IO3_J13/GCLK3, J14 IO3_J14, J15 IO3_J15, J16 IO3_J16, J17 IO3_J17, J18 IO3_J18, K12 VCCIO3, K13 IO3_K13/GCLK2, K14 IO3_K14, K15 IO3_K15, K16 IO3_K16, K17 IO3_K17, K18 IO3_K18, L8 GNDIO, L9 GNDIO, L10 GNDIO, L11 GNDIO, L13 IO3_L13, L14 IO3_L14, L15 IO3_L15, L16 IO3_L16, L17 IO3_L17, L18 IO3_L18, M9 VCCIO4, M10 VCCIO4, M12 IO3_M12, M13 IO3_M13, M14 IO3_M14, M15 IO3_M15, M16 IO3_M16, M17 IO3_M17, M18 IO3_M18, N7 IO4_N7, N8 IO4_N8, N9 IO4_N9/DEV_OE, N10 IO4_N10/DEV_CLRn, N11 IO4_N11, N12 IO4_N12, N13 IO3_N13, N14 IO3_N14, N15 IO3_N15, N16 IO3_N16, N17 IO3_N17, N18 IO3_N18, P6 IO4_P6, P7 IO4_P7, P8 IO4_P8, P9 IO4_P9, P10 IO4_P10, P11 IO4_P11, P12 IO4_P12, P13 IO4_P13, P14 IO3_P14, P15 IO3_P15, P16 IO3_P16, P17 IO3_P17, P18 IO3_P18, R5 IO4_R5, R6 IO4_R6, R7 IO4_R7, R8 IO4_R8, R9 IO4_R9, R10 IO4_R10, R11 IO4_R11, R12 IO4_R12, R13 IO4_R13, R14 IO4_R14, R15 IO3_R15, R16 IO3_R16, R17 IO3_R17, R18 IO3_R18, T4 IO4_T4, T5 IO4_T5, T6 IO4_T6, T7 IO4_T7, T8 IO4_T8, T9 IO4_T9, T10 IO4_T10, T11 IO4_T11, T12 IO4_T12, T13 IO4_T13, T14 IO4_T14, T15 IO4_T15, T16 IO3_T16, T17 IO3_T17, T18 VCCIO3, U1 IO4_U1, U2 GNDIO, U3 IO4_U3, U4 IO4_U4, U5 IO4_U5, U6 IO4_U6, U7 IO4_U7, U8 IO4_U8, U9 IO4_U9, U10 IO4_U10, U11 IO4_U11, U12 IO4_U12, U13 IO4_U13, U14 IO4_U14, U15 IO4_U15, U16 IO4_U16, U17 GNDIO, U18 IO4_U18, V1 GNDIO, V2 IO4_V2, V3 VCCIO4, V4 IO4_V4, V5 IO4_V5, V6 IO4_V6, V7 IO4_V7, V8 IO4_V8, V9 IO4_V9, V10 IO4_V10, V11 IO4_V11, V12 IO4_V12, V13 IO4_V13, V14 IO4_V14, V15 IO4_V15, V16 VCCIO4, V17 IO4_V17, V18 GNDIO